# Altium integrated library Renesas Microcontroller M16C.IntLib: 423 symbols (part 23 of 30)
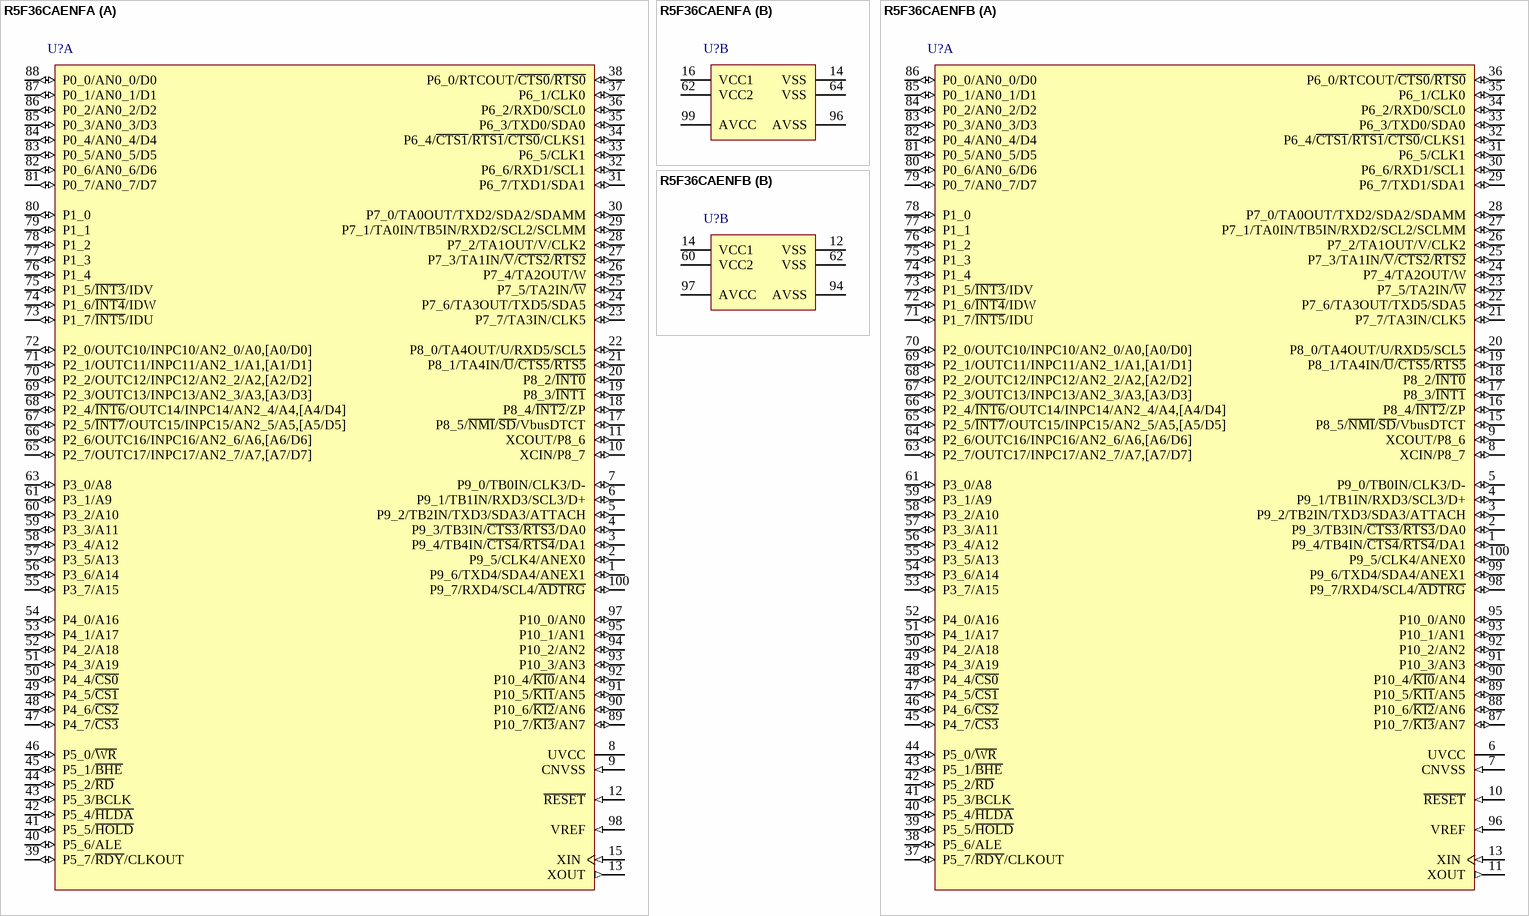
[diagram p208: symbols R5F36CAENFA to R5F36CAENFB]

## R5F36CAENFB
designator U?
Flash Memory M16C/60 Series, 6C Group MCU, 256K + 24K ROM, 20K RAM, 100-pin LQFP, -20 to 85°C; Note: P7_0, P7_1 and P8_5 are N channel open-drain output pins.; Published: 26-Feb-2010; DatasheetVersion: Rev.1.00, Jul-2009; PackageVersion: Sep-2005; PackageReference: PLQP0100KB-A; Publisher: Altium Limited; PackageDescription: 100-Pin Plastic Low Profile QFP, 14 x 14 x 1.4 mm Body, 0.5 mm Pitch; Code_JEITA: P-LQFP100-14x14-0.50; Code_IPC: SQFP50P1600X1600-100; ComponentLink1Description: Manufacturer Link; ComponentLink1URL: http://sg.renesas.com/fmwk.jsp?cnt=m16c_family_landing.jsp&fp=/products/mpumcu/m16c_family/; ComponentLink2Description: Datasheet; ComponentLink2URL: http://documentation.renesas.com/eng/products/mpumcu/rej03b0277_16c6cds.pdf; ComponentLink3Description: Packaging Specification; ComponentLink3URL: http://sg.renesas.com/media/products/common_info/package/pdf/ic/code/plqp0100kb_a.pdf
footprint PLQP0100KB-A_N (Shrink QFP, 100-Leads, Body 14x14mm, Pitch 0.5mm, IPC Medium Density)
footprint PLQP0100KB-A_L (Shrink QFP, 100-Leads, Body 14x14mm, Pitch 0.5mm, IPC High Density)
footprint PLQP0100KB-A_M (Shrink QFP, 100-Leads, Body 14x14mm, Pitch 0.5mm, IPC Low Density)
part A pins: 1 P9_4/TB4IN/~{CTS4}/~{RTS4}/DA1 (io), 2 P9_3/TB3IN/~{CTS3}/~{RTS3}/DA0 (io), 3 P9_2/TB2IN/TXD3/SDA3/ATTACH (io), 4 P9_1/TB1IN/RXD3/SCL3/D+ (io), 5 P9_0/TB0IN/CLK3/D- (io), 6 UVCC (power), 7 CNVSS (in), 8 XCIN/P8_7 (io), 9 XCOUT/P8_6 (io), 10 ~{RESET} (in), 11 XOUT (out), 13 XIN (in), 15 P8_5/~{NMI}/~{SD}/VbusDTCT (io), 16 P8_4/~{INT2}/ZP (io), 17 P8_3/~{INT1} (io), 18 P8_2/~{INT0} (io), 19 P8_1/TA4IN/~{U}/~{CTS5}/~{RTS5} (io), 20 P8_0/TA4OUT/U/RXD5/SCL5 (io), 21 P7_7/TA3IN/CLK5 (io), 22 P7_6/TA3OUT/TXD5/SDA5 (io), 23 P7_5/TA2IN/~{W} (io), 24 P7_4/TA2OUT/W (io), 25 P7_3/TA1IN/~{V}/~{CTS2}/~{RTS2} (io), 26 P7_2/TA1OUT/V/CLK2 (io), 27 P7_1/TA0IN/TB5IN/RXD2/SCL2/SCLMM (io), 28 P7_0/TA0OUT/TXD2/SDA2/SDAMM (io), 29 P6_7/TXD1/SDA1 (io), 30 P6_6/RXD1/SCL1 (io), 31 P6_5/CLK1 (io), 32 P6_4/~{CTS1}/~{RTS1}/~{CTS0}/CLKS1 (io), 33 P6_3/TXD0/SDA0 (io), 34 P6_2/RXD0/SCL0 (io), 35 P6_1/CLK0 (io), 36 P6_0/RTCOUT/~{CTS0}/~{RTS0} (io), 37 P5_7/~{RDY}/CLKOUT (io), 38 P5_6/ALE (io), 39 P5_5/~{HOLD} (io), 40 P5_4/~{HLDA} (io), 41 P5_3/BCLK (io), 42 P5_2/~{RD} (io), 43 P5_1/~{BHE} (io), 44 P5_0/~{WR} (io), 45 P4_7/~{CS3} (io), 46 P4_6/~{CS2} (io), 47 P4_5/~{CS1} (io), 48 P4_4/~{CS0} (io), 49 P4_3/A19 (io), 50 P4_2/A18 (io), 51 P4_1/A17 (io), 52 P4_0/A16 (io), 53 P3_7/A15 (io), 54 P3_6/A14 (io), 55 P3_5/A13 (io), 56 P3_4/A12 (io), 57 P3_3/A11 (io), 58 P3_2/A10 (io), 59 P3_1/A9 (io), 61 P3_0/A8 (io), 63 P2_7/OUTC17/INPC17/AN2_7/A7,[A7/D7] (io), 64 P2_6/OUTC16/INPC16/AN2_6/A6,[A6/D6] (io), 65 P2_5/~{INT7}/OUTC15/INPC15/AN2_5/A5,[A5/D5] (io), 66 P2_4/~{INT6}/OUTC14/INPC14/AN2_4/A4,[A4/D4] (io), 67 P2_3/OUTC13/INPC13/AN2_3/A3,[A3/D3] (io), 68 P2_2/OUTC12/INPC12/AN2_2/A2,[A2/D2] (io), 69 P2_1/OUTC11/INPC11/AN2_1/A1,[A1/D1] (io), 70 P2_0/OUTC10/INPC10/AN2_0/A0,[A0/D0] (io), 71 P1_7/~{INT5}/IDU (io), 72 P1_6/~{INT4}/IDW (io), 73 P1_5/~{INT3}/IDV (io), 74 P1_4 (io), 75 P1_3 (io), 76 P1_2 (io), 77 P1_1 (io), 78 P1_0 (io), 79 P0_7/AN0_7/D7 (io), 80 P0_6/AN0_6/D6 (io), 81 P0_5/AN0_5/D5 (io), 82 P0_4/AN0_4/D4 (io), 83 P0_3/AN0_3/D3 (io), 84 P0_2/AN0_2/D2 (io), 85 P0_1/AN0_1/D1 (io), 86 P0_0/AN0_0/D0 (io), 87 P10_7/~{KI3}/AN7 (io), 88 P10_6/~{KI2}/AN6 (io), 89 P10_5/~{KI1}/AN5 (io), 90 P10_4/~{KI0}/AN4 (io), 91 P10_3/AN3 (io), 92 P10_2/AN2 (io), 93 P10_1/AN1 (io), 95 P10_0/AN0 (io), 96 VREF (in), 98 P9_7/RXD4/SCL4/~{ADTRG} (io), 99 P9_6/TXD4/SDA4/ANEX1 (io), 100 P9_5/CLK4/ANEX0 (io)
part B pins: 12 VSS (power), 14 VCC1 (power), 60 VCC2 (power), 62 VSS (power), 94 AVSS (power), 97 AVCC (power)

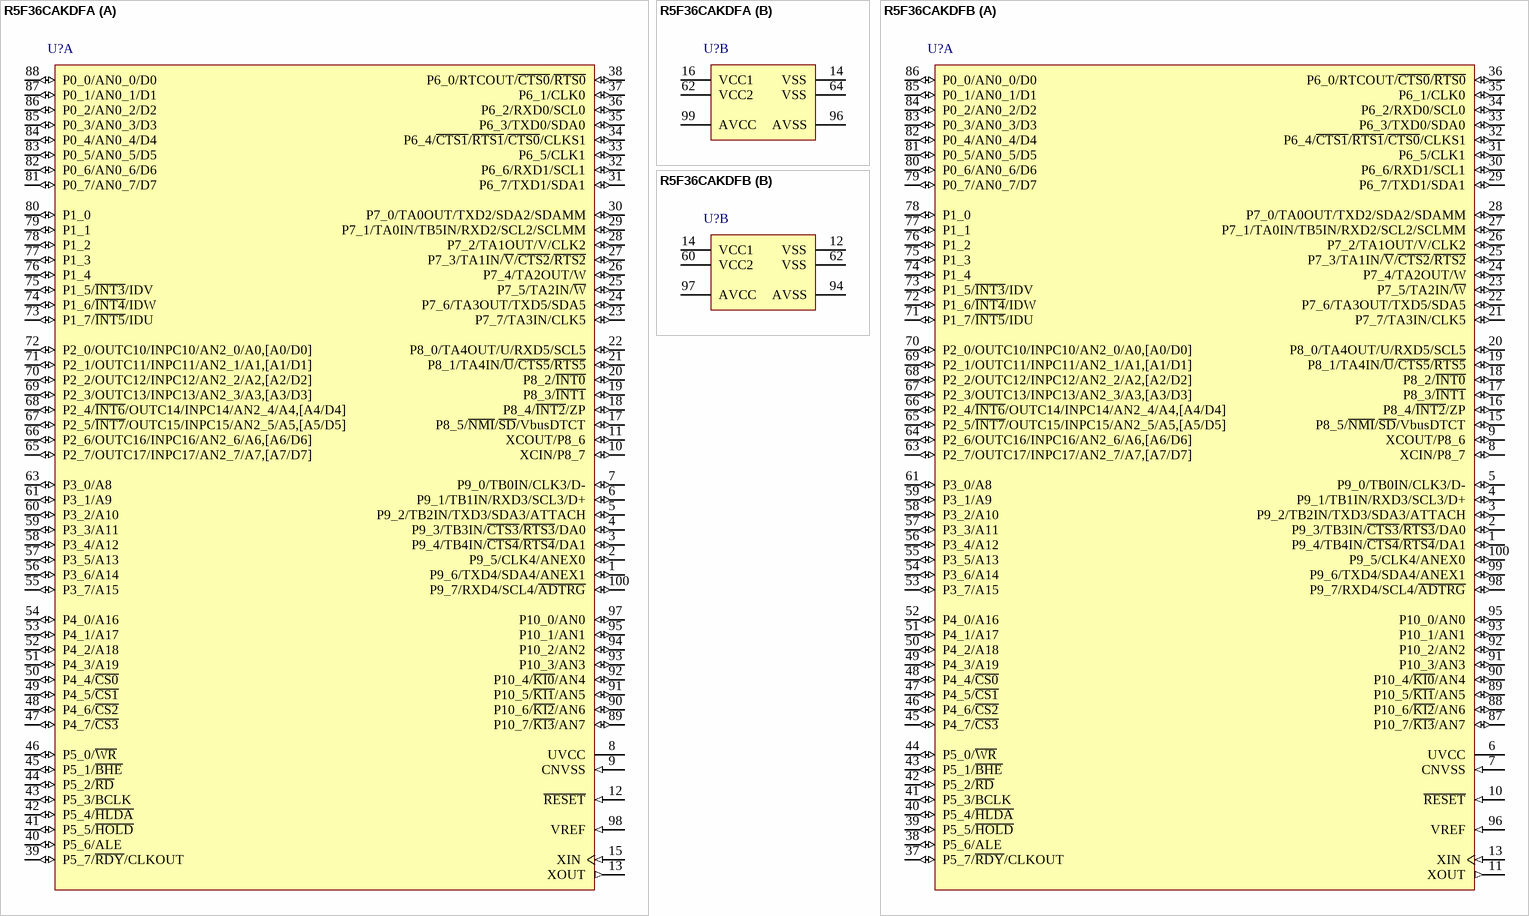
[diagram p140: symbols R5F36CAKDFA to R5F36CAKDFB]

## R5F36CAKDFA
designator U?
Flash Memory M16C/60 Series, 6C Group MCU, 348K + 24K ROM, 31K RAM, 100-pin RQFP, -40 to 85°C; Note: P7_0, P7_1 and P8_5 are N channel open-drain output pins.; Published: 26-Feb-2010; DatasheetVersion: Rev.1.00, Jul-2009; PackageVersion: Nov-2006; PackageReference: PRQP0100JD-B; Publisher: Altium Limited; PackageDescription: 100-Pin Plastic Quad Flat Pack, 20 x 14 x 2.8 mm Body, 0.65 mm Pitch; Code_JEITA: P-QFP100-14x20-0.65; ComponentLink1Description: Manufacturer Link; ComponentLink1URL: http://sg.renesas.com/fmwk.jsp?cnt=m16c_family_landing.jsp&fp=/products/mpumcu/m16c_family/; ComponentLink2Description: Datasheet; ComponentLink2URL: http://documentation.renesas.com/eng/products/mpumcu/rej03b0277_16c6cds.pdf; ComponentLink3Description: Packaging Specification; ComponentLink3URL: http://sg.renesas.com/media/products/common_info/package/pdf/ic/code/prqp0100jd_b.pdf
footprint PRQP0100JD-B_N (QFP, 100-Leads, Body 20x14mm, Pitch 0.65mm, IPC Medium Density)
footprint PRQP0100JD-B_L (QFP, 100-Leads, Body 20x14mm, Pitch 0.65mm, IPC High Density)
footprint PRQP0100JD-B_M (QFP, 100-Leads, Body 20x14mm, Pitch 0.65mm, IPC Low Density)
part A pins: 1 P9_6/TXD4/SDA4/ANEX1 (io), 2 P9_5/CLK4/ANEX0 (io), 3 P9_4/TB4IN/~{CTS4}/~{RTS4}/DA1 (io), 4 P9_3/TB3IN/~{CTS3}/~{RTS3}/DA0 (io), 5 P9_2/TB2IN/TXD3/SDA3/ATTACH (io), 6 P9_1/TB1IN/RXD3/SCL3/D+ (io), 7 P9_0/TB0IN/CLK3/D- (io), 8 UVCC (power), 9 CNVSS (in), 10 XCIN/P8_7 (io), 11 XCOUT/P8_6 (io), 12 ~{RESET} (in), 13 XOUT (out), 15 XIN (in), 17 P8_5/~{NMI}/~{SD}/VbusDTCT (io), 18 P8_4/~{INT2}/ZP (io), 19 P8_3/~{INT1} (io), 20 P8_2/~{INT0} (io), 21 P8_1/TA4IN/~{U}/~{CTS5}/~{RTS5} (io), 22 P8_0/TA4OUT/U/RXD5/SCL5 (io), 23 P7_7/TA3IN/CLK5 (io), 24 P7_6/TA3OUT/TXD5/SDA5 (io), 25 P7_5/TA2IN/~{W} (io), 26 P7_4/TA2OUT/W (io), 27 P7_3/TA1IN/~{V}/~{CTS2}/~{RTS2} (io), 28 P7_2/TA1OUT/V/CLK2 (io), 29 P7_1/TA0IN/TB5IN/RXD2/SCL2/SCLMM (io), 30 P7_0/TA0OUT/TXD2/SDA2/SDAMM (io), 31 P6_7/TXD1/SDA1 (io), 32 P6_6/RXD1/SCL1 (io), 33 P6_5/CLK1 (io), 34 P6_4/~{CTS1}/~{RTS1}/~{CTS0}/CLKS1 (io), 35 P6_3/TXD0/SDA0 (io), 36 P6_2/RXD0/SCL0 (io), 37 P6_1/CLK0 (io), 38 P6_0/RTCOUT/~{CTS0}/~{RTS0} (io), 39 P5_7/~{RDY}/CLKOUT (io), 40 P5_6/ALE (io), 41 P5_5/~{HOLD} (io), 42 P5_4/~{HLDA} (io), 43 P5_3/BCLK (io), 44 P5_2/~{RD} (io), 45 P5_1/~{BHE} (io), 46 P5_0/~{WR} (io), 47 P4_7/~{CS3} (io), 48 P4_6/~{CS2} (io), 49 P4_5/~{CS1} (io), 50 P4_4/~{CS0} (io), 51 P4_3/A19 (io), 52 P4_2/A18 (io), 53 P4_1/A17 (io), 54 P4_0/A16 (io), 55 P3_7/A15 (io), 56 P3_6/A14 (io), 57 P3_5/A13 (io), 58 P3_4/A12 (io), 59 P3_3/A11 (io), 60 P3_2/A10 (io), 61 P3_1/A9 (io), 63 P3_0/A8 (io), 65 P2_7/OUTC17/INPC17/AN2_7/A7,[A7/D7] (io), 66 P2_6/OUTC16/INPC16/AN2_6/A6,[A6/D6] (io), 67 P2_5/~{INT7}/OUTC15/INPC15/AN2_5/A5,[A5/D5] (io), 68 P2_4/~{INT6}/OUTC14/INPC14/AN2_4/A4,[A4/D4] (io), 69 P2_3/OUTC13/INPC13/AN2_3/A3,[A3/D3] (io), 70 P2_2/OUTC12/INPC12/AN2_2/A2,[A2/D2] (io), 71 P2_1/OUTC11/INPC11/AN2_1/A1,[A1/D1] (io), 72 P2_0/OUTC10/INPC10/AN2_0/A0,[A0/D0] (io), 73 P1_7/~{INT5}/IDU (io), 74 P1_6/~{INT4}/IDW (io), 75 P1_5/~{INT3}/IDV (io), 76 P1_4 (io), 77 P1_3 (io), 78 P1_2 (io), 79 P1_1 (io), 80 P1_0 (io), 81 P0_7/AN0_7/D7 (io), 82 P0_6/AN0_6/D6 (io), 83 P0_5/AN0_5/D5 (io), 84 P0_4/AN0_4/D4 (io), 85 P0_3/AN0_3/D3 (io), 86 P0_2/AN0_2/D2 (io), 87 P0_1/AN0_1/D1 (io), 88 P0_0/AN0_0/D0 (io), 89 P10_7/~{KI3}/AN7 (io), 90 P10_6/~{KI2}/AN6 (io), 91 P10_5/~{KI1}/AN5 (io), 92 P10_4/~{KI0}/AN4 (io), 93 P10_3/AN3 (io), 94 P10_2/AN2 (io), 95 P10_1/AN1 (io), 97 P10_0/AN0 (io), 98 VREF (in), 100 P9_7/RXD4/SCL4/~{ADTRG} (io)
part B pins: 14 VSS (power), 16 VCC1 (power), 62 VCC2 (power), 64 VSS (power), 96 AVSS (power), 99 AVCC (power)

## R5F36CAKDFB
designator U?
Flash Memory M16C/60 Series, 6C Group MCU, 348K + 24K ROM, 31K RAM, 100-pin LQFP, -40 to 85°C; Note: P7_0, P7_1 and P8_5 are N channel open-drain output pins.; Published: 26-Feb-2010; DatasheetVersion: Rev.1.00, Jul-2009; PackageVersion: Sep-2005; PackageReference: PLQP0100KB-A; Publisher: Altium Limited; PackageDescription: 100-Pin Plastic Low Profile QFP, 14 x 14 x 1.4 mm Body, 0.5 mm Pitch; Code_JEITA: P-LQFP100-14x14-0.50; Code_IPC: SQFP50P1600X1600-100; ComponentLink1Description: Manufacturer Link; ComponentLink1URL: http://sg.renesas.com/fmwk.jsp?cnt=m16c_family_landing.jsp&fp=/products/mpumcu/m16c_family/; ComponentLink2Description: Datasheet; ComponentLink2URL: http://documentation.renesas.com/eng/products/mpumcu/rej03b0277_16c6cds.pdf; ComponentLink3Description: Packaging Specification; ComponentLink3URL: http://sg.renesas.com/media/products/common_info/package/pdf/ic/code/plqp0100kb_a.pdf
footprint PLQP0100KB-A_N (Shrink QFP, 100-Leads, Body 14x14mm, Pitch 0.5mm, IPC Medium Density)
footprint PLQP0100KB-A_L (Shrink QFP, 100-Leads, Body 14x14mm, Pitch 0.5mm, IPC High Density)
footprint PLQP0100KB-A_M (Shrink QFP, 100-Leads, Body 14x14mm, Pitch 0.5mm, IPC Low Density)
part A pins: 1 P9_4/TB4IN/~{CTS4}/~{RTS4}/DA1 (io), 2 P9_3/TB3IN/~{CTS3}/~{RTS3}/DA0 (io), 3 P9_2/TB2IN/TXD3/SDA3/ATTACH (io), 4 P9_1/TB1IN/RXD3/SCL3/D+ (io), 5 P9_0/TB0IN/CLK3/D- (io), 6 UVCC (power), 7 CNVSS (in), 8 XCIN/P8_7 (io), 9 XCOUT/P8_6 (io), 10 ~{RESET} (in), 11 XOUT (out), 13 XIN (in), 15 P8_5/~{NMI}/~{SD}/VbusDTCT (io), 16 P8_4/~{INT2}/ZP (io), 17 P8_3/~{INT1} (io), 18 P8_2/~{INT0} (io), 19 P8_1/TA4IN/~{U}/~{CTS5}/~{RTS5} (io), 20 P8_0/TA4OUT/U/RXD5/SCL5 (io), 21 P7_7/TA3IN/CLK5 (io), 22 P7_6/TA3OUT/TXD5/SDA5 (io), 23 P7_5/TA2IN/~{W} (io), 24 P7_4/TA2OUT/W (io), 25 P7_3/TA1IN/~{V}/~{CTS2}/~{RTS2} (io), 26 P7_2/TA1OUT/V/CLK2 (io), 27 P7_1/TA0IN/TB5IN/RXD2/SCL2/SCLMM (io), 28 P7_0/TA0OUT/TXD2/SDA2/SDAMM (io), 29 P6_7/TXD1/SDA1 (io), 30 P6_6/RXD1/SCL1 (io), 31 P6_5/CLK1 (io), 32 P6_4/~{CTS1}/~{RTS1}/~{CTS0}/CLKS1 (io), 33 P6_3/TXD0/SDA0 (io), 34 P6_2/RXD0/SCL0 (io), 35 P6_1/CLK0 (io), 36 P6_0/RTCOUT/~{CTS0}/~{RTS0} (io), 37 P5_7/~{RDY}/CLKOUT (io), 38 P5_6/ALE (io), 39 P5_5/~{HOLD} (io), 40 P5_4/~{HLDA} (io), 41 P5_3/BCLK (io), 42 P5_2/~{RD} (io), 43 P5_1/~{BHE} (io), 44 P5_0/~{WR} (io), 45 P4_7/~{CS3} (io), 46 P4_6/~{CS2} (io), 47 P4_5/~{CS1} (io), 48 P4_4/~{CS0} (io), 49 P4_3/A19 (io), 50 P4_2/A18 (io), 51 P4_1/A17 (io), 52 P4_0/A16 (io), 53 P3_7/A15 (io), 54 P3_6/A14 (io), 55 P3_5/A13 (io), 56 P3_4/A12 (io), 57 P3_3/A11 (io), 58 P3_2/A10 (io), 59 P3_1/A9 (io), 61 P3_0/A8 (io), 63 P2_7/OUTC17/INPC17/AN2_7/A7,[A7/D7] (io), 64 P2_6/OUTC16/INPC16/AN2_6/A6,[A6/D6] (io), 65 P2_5/~{INT7}/OUTC15/INPC15/AN2_5/A5,[A5/D5] (io), 66 P2_4/~{INT6}/OUTC14/INPC14/AN2_4/A4,[A4/D4] (io), 67 P2_3/OUTC13/INPC13/AN2_3/A3,[A3/D3] (io), 68 P2_2/OUTC12/INPC12/AN2_2/A2,[A2/D2] (io), 69 P2_1/OUTC11/INPC11/AN2_1/A1,[A1/D1] (io), 70 P2_0/OUTC10/INPC10/AN2_0/A0,[A0/D0] (io), 71 P1_7/~{INT5}/IDU (io), 72 P1_6/~{INT4}/IDW (io), 73 P1_5/~{INT3}/IDV (io), 74 P1_4 (io), 75 P1_3 (io), 76 P1_2 (io), 77 P1_1 (io), 78 P1_0 (io), 79 P0_7/AN0_7/D7 (io), 80 P0_6/AN0_6/D6 (io), 81 P0_5/AN0_5/D5 (io), 82 P0_4/AN0_4/D4 (io), 83 P0_3/AN0_3/D3 (io), 84 P0_2/AN0_2/D2 (io), 85 P0_1/AN0_1/D1 (io), 86 P0_0/AN0_0/D0 (io), 87 P10_7/~{KI3}/AN7 (io), 88 P10_6/~{KI2}/AN6 (io), 89 P10_5/~{KI1}/AN5 (io), 90 P10_4/~{KI0}/AN4 (io), 91 P10_3/AN3 (io), 92 P10_2/AN2 (io), 93 P10_1/AN1 (io), 95 P10_0/AN0 (io), 96 VREF (in), 98 P9_7/RXD4/SCL4/~{ADTRG} (io), 99 P9_6/TXD4/SDA4/ANEX1 (io), 100 P9_5/CLK4/ANEX0 (io)
part B pins: 12 VSS (power), 14 VCC1 (power), 60 VCC2 (power), 62 VSS (power), 94 AVSS (power), 97 AVCC (power)

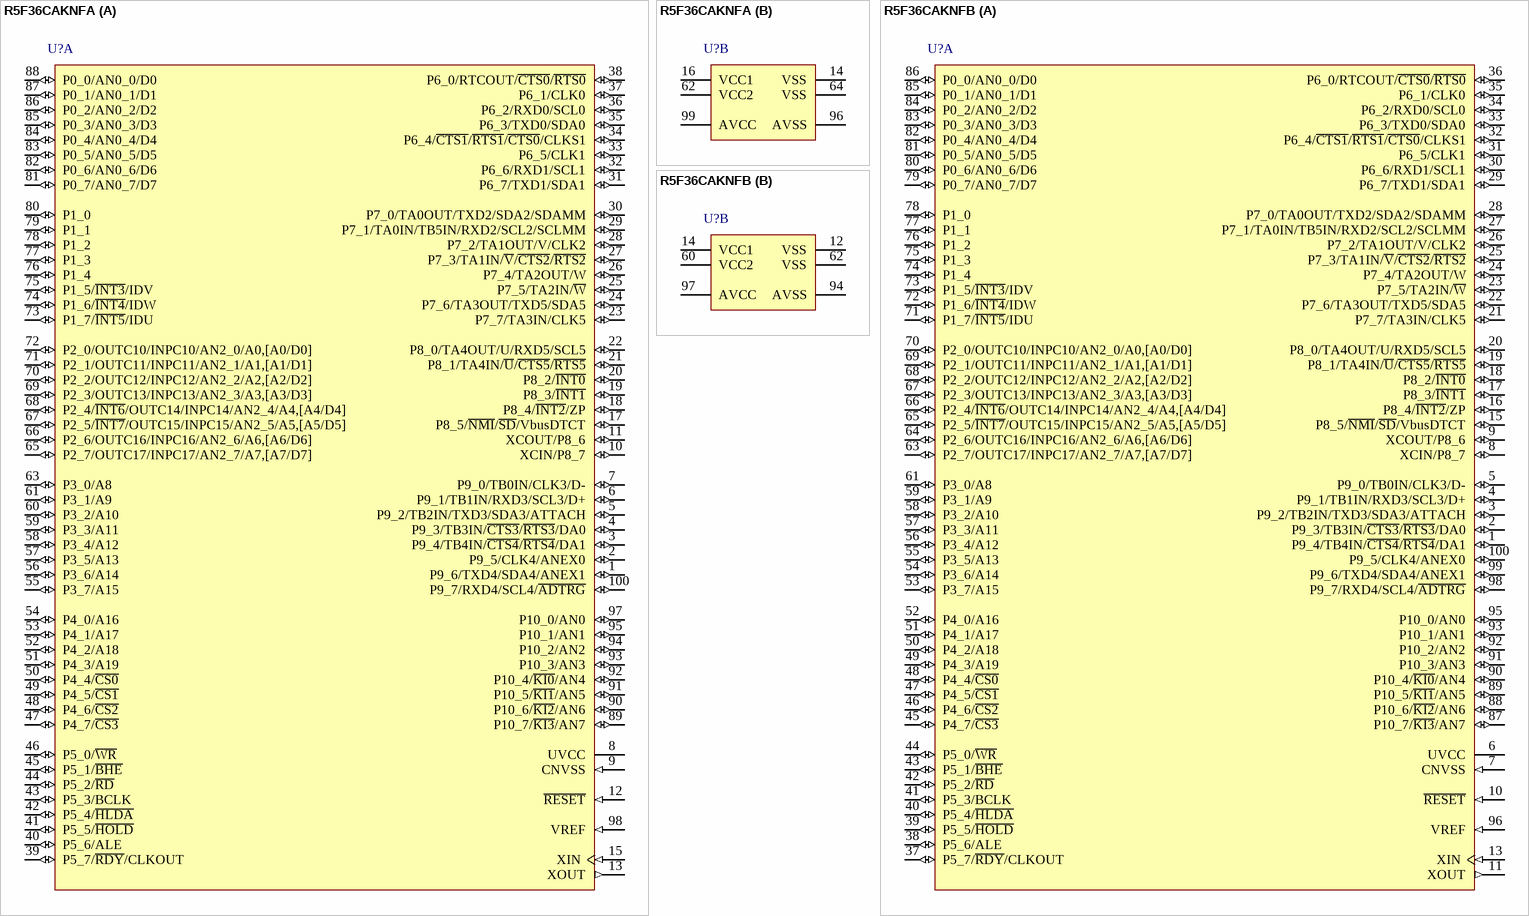
[diagram p141: symbols R5F36CAKNFA to R5F36CAKNFB]

## R5F36CAKNFA
designator U?
Flash Memory M16C/60 Series, 6C Group MCU, 348K + 24K ROM, 31K RAM, 100-pin RQFP, -20 to 85°C; Note: P7_0, P7_1 and P8_5 are N channel open-drain output pins.; Published: 26-Feb-2010; DatasheetVersion: Rev.1.00, Jul-2009; PackageVersion: Nov-2006; PackageReference: PRQP0100JD-B; Publisher: Altium Limited; PackageDescription: 100-Pin Plastic Quad Flat Pack, 20 x 14 x 2.8 mm Body, 0.65 mm Pitch; Code_JEITA: P-QFP100-14x20-0.65; ComponentLink1Description: Manufacturer Link; ComponentLink1URL: http://sg.renesas.com/fmwk.jsp?cnt=m16c_family_landing.jsp&fp=/products/mpumcu/m16c_family/; ComponentLink2Description: Datasheet; ComponentLink2URL: http://documentation.renesas.com/eng/products/mpumcu/rej03b0277_16c6cds.pdf; ComponentLink3Description: Packaging Specification; ComponentLink3URL: http://sg.renesas.com/media/products/common_info/package/pdf/ic/code/prqp0100jd_b.pdf
footprint PRQP0100JD-B_N (QFP, 100-Leads, Body 20x14mm, Pitch 0.65mm, IPC Medium Density)
footprint PRQP0100JD-B_L (QFP, 100-Leads, Body 20x14mm, Pitch 0.65mm, IPC High Density)
footprint PRQP0100JD-B_M (QFP, 100-Leads, Body 20x14mm, Pitch 0.65mm, IPC Low Density)
part A pins: 1 P9_6/TXD4/SDA4/ANEX1 (io), 2 P9_5/CLK4/ANEX0 (io), 3 P9_4/TB4IN/~{CTS4}/~{RTS4}/DA1 (io), 4 P9_3/TB3IN/~{CTS3}/~{RTS3}/DA0 (io), 5 P9_2/TB2IN/TXD3/SDA3/ATTACH (io), 6 P9_1/TB1IN/RXD3/SCL3/D+ (io), 7 P9_0/TB0IN/CLK3/D- (io), 8 UVCC (power), 9 CNVSS (in), 10 XCIN/P8_7 (io), 11 XCOUT/P8_6 (io), 12 ~{RESET} (in), 13 XOUT (out), 15 XIN (in), 17 P8_5/~{NMI}/~{SD}/VbusDTCT (io), 18 P8_4/~{INT2}/ZP (io), 19 P8_3/~{INT1} (io), 20 P8_2/~{INT0} (io), 21 P8_1/TA4IN/~{U}/~{CTS5}/~{RTS5} (io), 22 P8_0/TA4OUT/U/RXD5/SCL5 (io), 23 P7_7/TA3IN/CLK5 (io), 24 P7_6/TA3OUT/TXD5/SDA5 (io), 25 P7_5/TA2IN/~{W} (io), 26 P7_4/TA2OUT/W (io), 27 P7_3/TA1IN/~{V}/~{CTS2}/~{RTS2} (io), 28 P7_2/TA1OUT/V/CLK2 (io), 29 P7_1/TA0IN/TB5IN/RXD2/SCL2/SCLMM (io), 30 P7_0/TA0OUT/TXD2/SDA2/SDAMM (io), 31 P6_7/TXD1/SDA1 (io), 32 P6_6/RXD1/SCL1 (io), 33 P6_5/CLK1 (io), 34 P6_4/~{CTS1}/~{RTS1}/~{CTS0}/CLKS1 (io), 35 P6_3/TXD0/SDA0 (io), 36 P6_2/RXD0/SCL0 (io), 37 P6_1/CLK0 (io), 38 P6_0/RTCOUT/~{CTS0}/~{RTS0} (io), 39 P5_7/~{RDY}/CLKOUT (io), 40 P5_6/ALE (io), 41 P5_5/~{HOLD} (io), 42 P5_4/~{HLDA} (io), 43 P5_3/BCLK (io), 44 P5_2/~{RD} (io), 45 P5_1/~{BHE} (io), 46 P5_0/~{WR} (io), 47 P4_7/~{CS3} (io), 48 P4_6/~{CS2} (io), 49 P4_5/~{CS1} (io), 50 P4_4/~{CS0} (io), 51 P4_3/A19 (io), 52 P4_2/A18 (io), 53 P4_1/A17 (io), 54 P4_0/A16 (io), 55 P3_7/A15 (io), 56 P3_6/A14 (io), 57 P3_5/A13 (io), 58 P3_4/A12 (io), 59 P3_3/A11 (io), 60 P3_2/A10 (io), 61 P3_1/A9 (io), 63 P3_0/A8 (io), 65 P2_7/OUTC17/INPC17/AN2_7/A7,[A7/D7] (io), 66 P2_6/OUTC16/INPC16/AN2_6/A6,[A6/D6] (io), 67 P2_5/~{INT7}/OUTC15/INPC15/AN2_5/A5,[A5/D5] (io), 68 P2_4/~{INT6}/OUTC14/INPC14/AN2_4/A4,[A4/D4] (io), 69 P2_3/OUTC13/INPC13/AN2_3/A3,[A3/D3] (io), 70 P2_2/OUTC12/INPC12/AN2_2/A2,[A2/D2] (io), 71 P2_1/OUTC11/INPC11/AN2_1/A1,[A1/D1] (io), 72 P2_0/OUTC10/INPC10/AN2_0/A0,[A0/D0] (io), 73 P1_7/~{INT5}/IDU (io), 74 P1_6/~{INT4}/IDW (io), 75 P1_5/~{INT3}/IDV (io), 76 P1_4 (io), 77 P1_3 (io), 78 P1_2 (io), 79 P1_1 (io), 80 P1_0 (io), 81 P0_7/AN0_7/D7 (io), 82 P0_6/AN0_6/D6 (io), 83 P0_5/AN0_5/D5 (io), 84 P0_4/AN0_4/D4 (io), 85 P0_3/AN0_3/D3 (io), 86 P0_2/AN0_2/D2 (io), 87 P0_1/AN0_1/D1 (io), 88 P0_0/AN0_0/D0 (io), 89 P10_7/~{KI3}/AN7 (io), 90 P10_6/~{KI2}/AN6 (io), 91 P10_5/~{KI1}/AN5 (io), 92 P10_4/~{KI0}/AN4 (io), 93 P10_3/AN3 (io), 94 P10_2/AN2 (io), 95 P10_1/AN1 (io), 97 P10_0/AN0 (io), 98 VREF (in), 100 P9_7/RXD4/SCL4/~{ADTRG} (io)
part B pins: 14 VSS (power), 16 VCC1 (power), 62 VCC2 (power), 64 VSS (power), 96 AVSS (power), 99 AVCC (power)

## R5F36CAKNFB
designator U?
Flash Memory M16C/60 Series, 6C Group MCU, 348K + 24K ROM, 31K RAM, 100-pin LQFP, -20 to 85°C; Note: P7_0, P7_1 and P8_5 are N channel open-drain output pins.; Published: 26-Feb-2010; DatasheetVersion: Rev.1.00, Jul-2009; PackageVersion: Sep-2005; PackageReference: PLQP0100KB-A; Publisher: Altium Limited; PackageDescription: 100-Pin Plastic Low Profile QFP, 14 x 14 x 1.4 mm Body, 0.5 mm Pitch; Code_JEITA: P-LQFP100-14x14-0.50; Code_IPC: SQFP50P1600X1600-100; ComponentLink1Description: Manufacturer Link; ComponentLink1URL: http://sg.renesas.com/fmwk.jsp?cnt=m16c_family_landing.jsp&fp=/products/mpumcu/m16c_family/; ComponentLink2Description: Datasheet; ComponentLink2URL: http://documentation.renesas.com/eng/products/mpumcu/rej03b0277_16c6cds.pdf; ComponentLink3Description: Packaging Specification; ComponentLink3URL: http://sg.renesas.com/media/products/common_info/package/pdf/ic/code/plqp0100kb_a.pdf
footprint PLQP0100KB-A_N (Shrink QFP, 100-Leads, Body 14x14mm, Pitch 0.5mm, IPC Medium Density)
footprint PLQP0100KB-A_L (Shrink QFP, 100-Leads, Body 14x14mm, Pitch 0.5mm, IPC High Density)
footprint PLQP0100KB-A_M (Shrink QFP, 100-Leads, Body 14x14mm, Pitch 0.5mm, IPC Low Density)
part A pins: 1 P9_4/TB4IN/~{CTS4}/~{RTS4}/DA1 (io), 2 P9_3/TB3IN/~{CTS3}/~{RTS3}/DA0 (io), 3 P9_2/TB2IN/TXD3/SDA3/ATTACH (io), 4 P9_1/TB1IN/RXD3/SCL3/D+ (io), 5 P9_0/TB0IN/CLK3/D- (io), 6 UVCC (power), 7 CNVSS (in), 8 XCIN/P8_7 (io), 9 XCOUT/P8_6 (io), 10 ~{RESET} (in), 11 XOUT (out), 13 XIN (in), 15 P8_5/~{NMI}/~{SD}/VbusDTCT (io), 16 P8_4/~{INT2}/ZP (io), 17 P8_3/~{INT1} (io), 18 P8_2/~{INT0} (io), 19 P8_1/TA4IN/~{U}/~{CTS5}/~{RTS5} (io), 20 P8_0/TA4OUT/U/RXD5/SCL5 (io), 21 P7_7/TA3IN/CLK5 (io), 22 P7_6/TA3OUT/TXD5/SDA5 (io), 23 P7_5/TA2IN/~{W} (io), 24 P7_4/TA2OUT/W (io), 25 P7_3/TA1IN/~{V}/~{CTS2}/~{RTS2} (io), 26 P7_2/TA1OUT/V/CLK2 (io), 27 P7_1/TA0IN/TB5IN/RXD2/SCL2/SCLMM (io), 28 P7_0/TA0OUT/TXD2/SDA2/SDAMM (io), 29 P6_7/TXD1/SDA1 (io), 30 P6_6/RXD1/SCL1 (io), 31 P6_5/CLK1 (io), 32 P6_4/~{CTS1}/~{RTS1}/~{CTS0}/CLKS1 (io), 33 P6_3/TXD0/SDA0 (io), 34 P6_2/RXD0/SCL0 (io), 35 P6_1/CLK0 (io), 36 P6_0/RTCOUT/~{CTS0}/~{RTS0} (io), 37 P5_7/~{RDY}/CLKOUT (io), 38 P5_6/ALE (io), 39 P5_5/~{HOLD} (io), 40 P5_4/~{HLDA} (io), 41 P5_3/BCLK (io), 42 P5_2/~{RD} (io), 43 P5_1/~{BHE} (io), 44 P5_0/~{WR} (io), 45 P4_7/~{CS3} (io), 46 P4_6/~{CS2} (io), 47 P4_5/~{CS1} (io), 48 P4_4/~{CS0} (io), 49 P4_3/A19 (io), 50 P4_2/A18 (io), 51 P4_1/A17 (io), 52 P4_0/A16 (io), 53 P3_7/A15 (io), 54 P3_6/A14 (io), 55 P3_5/A13 (io), 56 P3_4/A12 (io), 57 P3_3/A11 (io), 58 P3_2/A10 (io), 59 P3_1/A9 (io), 61 P3_0/A8 (io), 63 P2_7/OUTC17/INPC17/AN2_7/A7,[A7/D7] (io), 64 P2_6/OUTC16/INPC16/AN2_6/A6,[A6/D6] (io), 65 P2_5/~{INT7}/OUTC15/INPC15/AN2_5/A5,[A5/D5] (io), 66 P2_4/~{INT6}/OUTC14/INPC14/AN2_4/A4,[A4/D4] (io), 67 P2_3/OUTC13/INPC13/AN2_3/A3,[A3/D3] (io), 68 P2_2/OUTC12/INPC12/AN2_2/A2,[A2/D2] (io), 69 P2_1/OUTC11/INPC11/AN2_1/A1,[A1/D1] (io), 70 P2_0/OUTC10/INPC10/AN2_0/A0,[A0/D0] (io), 71 P1_7/~{INT5}/IDU (io), 72 P1_6/~{INT4}/IDW (io), 73 P1_5/~{INT3}/IDV (io), 74 P1_4 (io), 75 P1_3 (io), 76 P1_2 (io), 77 P1_1 (io), 78 P1_0 (io), 79 P0_7/AN0_7/D7 (io), 80 P0_6/AN0_6/D6 (io), 81 P0_5/AN0_5/D5 (io), 82 P0_4/AN0_4/D4 (io), 83 P0_3/AN0_3/D3 (io), 84 P0_2/AN0_2/D2 (io), 85 P0_1/AN0_1/D1 (io), 86 P0_0/AN0_0/D0 (io), 87 P10_7/~{KI3}/AN7 (io), 88 P10_6/~{KI2}/AN6 (io), 89 P10_5/~{KI1}/AN5 (io), 90 P10_4/~{KI0}/AN4 (io), 91 P10_3/AN3 (io), 92 P10_2/AN2 (io), 93 P10_1/AN1 (io), 95 P10_0/AN0 (io), 96 VREF (in), 98 P9_7/RXD4/SCL4/~{ADTRG} (io), 99 P9_6/TXD4/SDA4/ANEX1 (io), 100 P9_5/CLK4/ANEX0 (io)
part B pins: 12 VSS (power), 14 VCC1 (power), 60 VCC2 (power), 62 VSS (power), 94 AVSS (power), 97 AVCC (power)

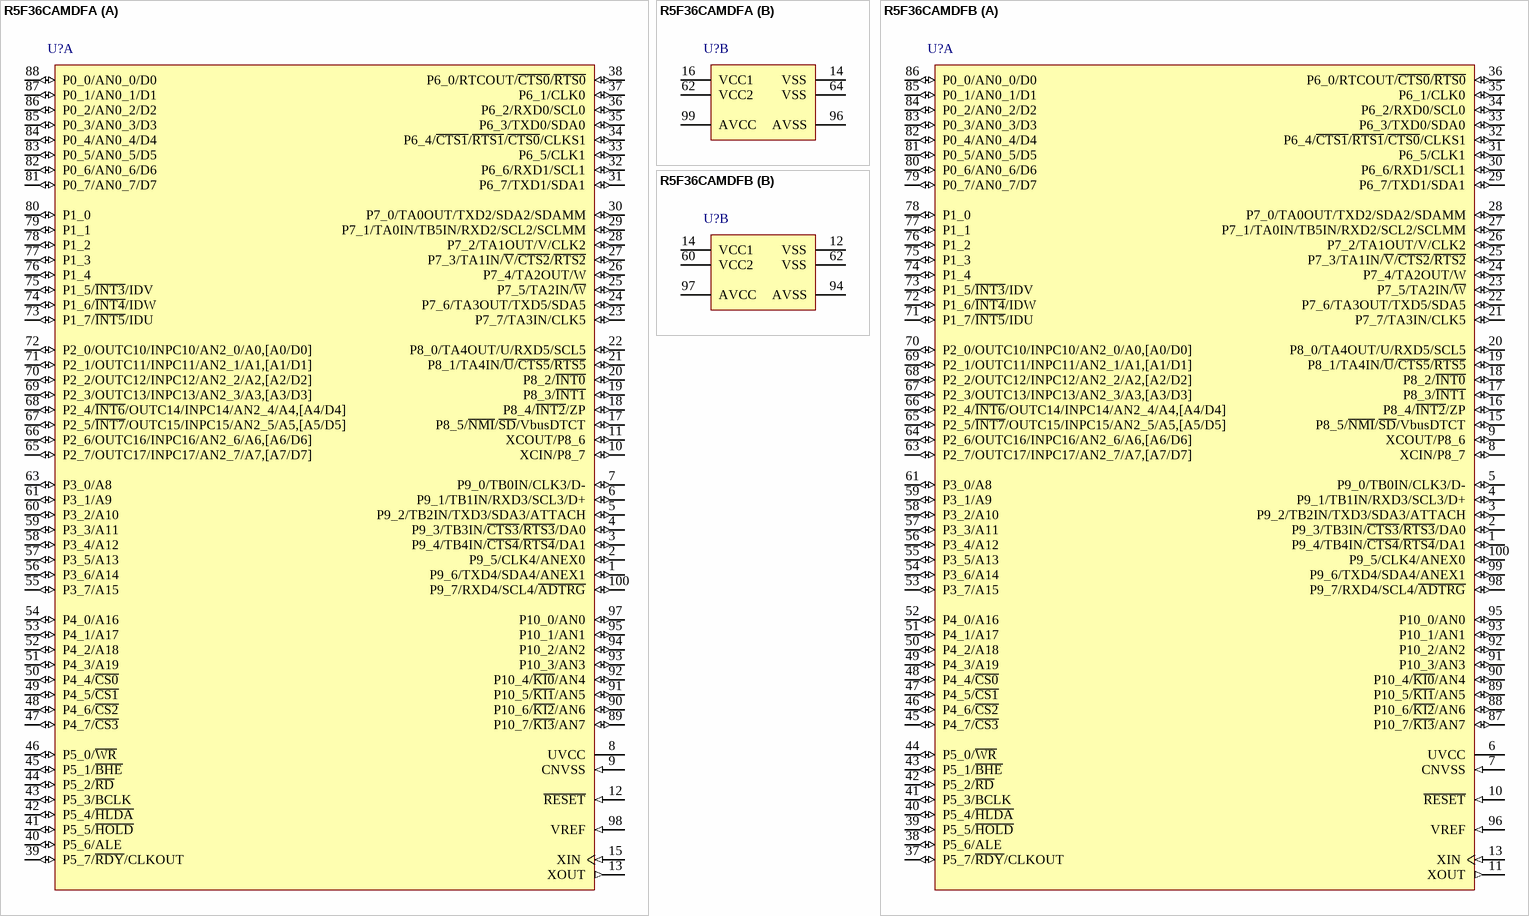
[diagram p142: symbols R5F36CAMDFA to R5F36CAMDFB]

## R5F36CAMDFA
designator U?
Flash Memory M16C/60 Series, 6C Group MCU, 512K + 24K ROM, 31K RAM, 100-pin RQFP, -40 to 85°C; Note: P7_0, P7_1 and P8_5 are N channel open-drain output pins.; Published: 26-Feb-2010; DatasheetVersion: Rev.1.00, Jul-2009; PackageVersion: Nov-2006; PackageReference: PRQP0100JD-B; Publisher: Altium Limited; PackageDescription: 100-Pin Plastic Quad Flat Pack, 20 x 14 x 2.8 mm Body, 0.65 mm Pitch; Code_JEITA: P-QFP100-14x20-0.65; ComponentLink1Description: Manufacturer Link; ComponentLink1URL: http://sg.renesas.com/fmwk.jsp?cnt=m16c_family_landing.jsp&fp=/products/mpumcu/m16c_family/; ComponentLink2Description: Datasheet; ComponentLink2URL: http://documentation.renesas.com/eng/products/mpumcu/rej03b0277_16c6cds.pdf; ComponentLink3Description: Packaging Specification; ComponentLink3URL: http://sg.renesas.com/media/products/common_info/package/pdf/ic/code/prqp0100jd_b.pdf
footprint PRQP0100JD-B_N (QFP, 100-Leads, Body 20x14mm, Pitch 0.65mm, IPC Medium Density)
footprint PRQP0100JD-B_L (QFP, 100-Leads, Body 20x14mm, Pitch 0.65mm, IPC High Density)
footprint PRQP0100JD-B_M (QFP, 100-Leads, Body 20x14mm, Pitch 0.65mm, IPC Low Density)
part A pins: 1 P9_6/TXD4/SDA4/ANEX1 (io), 2 P9_5/CLK4/ANEX0 (io), 3 P9_4/TB4IN/~{CTS4}/~{RTS4}/DA1 (io), 4 P9_3/TB3IN/~{CTS3}/~{RTS3}/DA0 (io), 5 P9_2/TB2IN/TXD3/SDA3/ATTACH (io), 6 P9_1/TB1IN/RXD3/SCL3/D+ (io), 7 P9_0/TB0IN/CLK3/D- (io), 8 UVCC (power), 9 CNVSS (in), 10 XCIN/P8_7 (io), 11 XCOUT/P8_6 (io), 12 ~{RESET} (in), 13 XOUT (out), 15 XIN (in), 17 P8_5/~{NMI}/~{SD}/VbusDTCT (io), 18 P8_4/~{INT2}/ZP (io), 19 P8_3/~{INT1} (io), 20 P8_2/~{INT0} (io), 21 P8_1/TA4IN/~{U}/~{CTS5}/~{RTS5} (io), 22 P8_0/TA4OUT/U/RXD5/SCL5 (io), 23 P7_7/TA3IN/CLK5 (io), 24 P7_6/TA3OUT/TXD5/SDA5 (io), 25 P7_5/TA2IN/~{W} (io), 26 P7_4/TA2OUT/W (io), 27 P7_3/TA1IN/~{V}/~{CTS2}/~{RTS2} (io), 28 P7_2/TA1OUT/V/CLK2 (io), 29 P7_1/TA0IN/TB5IN/RXD2/SCL2/SCLMM (io), 30 P7_0/TA0OUT/TXD2/SDA2/SDAMM (io), 31 P6_7/TXD1/SDA1 (io), 32 P6_6/RXD1/SCL1 (io), 33 P6_5/CLK1 (io), 34 P6_4/~{CTS1}/~{RTS1}/~{CTS0}/CLKS1 (io), 35 P6_3/TXD0/SDA0 (io), 36 P6_2/RXD0/SCL0 (io), 37 P6_1/CLK0 (io), 38 P6_0/RTCOUT/~{CTS0}/~{RTS0} (io), 39 P5_7/~{RDY}/CLKOUT (io), 40 P5_6/ALE (io), 41 P5_5/~{HOLD} (io), 42 P5_4/~{HLDA} (io), 43 P5_3/BCLK (io), 44 P5_2/~{RD} (io), 45 P5_1/~{BHE} (io), 46 P5_0/~{WR} (io), 47 P4_7/~{CS3} (io), 48 P4_6/~{CS2} (io), 49 P4_5/~{CS1} (io), 50 P4_4/~{CS0} (io), 51 P4_3/A19 (io), 52 P4_2/A18 (io), 53 P4_1/A17 (io), 54 P4_0/A16 (io), 55 P3_7/A15 (io), 56 P3_6/A14 (io), 57 P3_5/A13 (io), 58 P3_4/A12 (io), 59 P3_3/A11 (io), 60 P3_2/A10 (io), 61 P3_1/A9 (io), 63 P3_0/A8 (io), 65 P2_7/OUTC17/INPC17/AN2_7/A7,[A7/D7] (io), 66 P2_6/OUTC16/INPC16/AN2_6/A6,[A6/D6] (io), 67 P2_5/~{INT7}/OUTC15/INPC15/AN2_5/A5,[A5/D5] (io), 68 P2_4/~{INT6}/OUTC14/INPC14/AN2_4/A4,[A4/D4] (io), 69 P2_3/OUTC13/INPC13/AN2_3/A3,[A3/D3] (io), 70 P2_2/OUTC12/INPC12/AN2_2/A2,[A2/D2] (io), 71 P2_1/OUTC11/INPC11/AN2_1/A1,[A1/D1] (io), 72 P2_0/OUTC10/INPC10/AN2_0/A0,[A0/D0] (io), 73 P1_7/~{INT5}/IDU (io), 74 P1_6/~{INT4}/IDW (io), 75 P1_5/~{INT3}/IDV (io), 76 P1_4 (io), 77 P1_3 (io), 78 P1_2 (io), 79 P1_1 (io), 80 P1_0 (io), 81 P0_7/AN0_7/D7 (io), 82 P0_6/AN0_6/D6 (io), 83 P0_5/AN0_5/D5 (io), 84 P0_4/AN0_4/D4 (io), 85 P0_3/AN0_3/D3 (io), 86 P0_2/AN0_2/D2 (io), 87 P0_1/AN0_1/D1 (io), 88 P0_0/AN0_0/D0 (io), 89 P10_7/~{KI3}/AN7 (io), 90 P10_6/~{KI2}/AN6 (io), 91 P10_5/~{KI1}/AN5 (io), 92 P10_4/~{KI0}/AN4 (io), 93 P10_3/AN3 (io), 94 P10_2/AN2 (io), 95 P10_1/AN1 (io), 97 P10_0/AN0 (io), 98 VREF (in), 100 P9_7/RXD4/SCL4/~{ADTRG} (io)
part B pins: 14 VSS (power), 16 VCC1 (power), 62 VCC2 (power), 64 VSS (power), 96 AVSS (power), 99 AVCC (power)

## R5F36CAMDFB
designator U?
Flash Memory M16C/60 Series, 6C Group MCU, 512K + 24K ROM, 31K RAM, 100-pin LQFP, -40 to 85°C; Note: P7_0, P7_1 and P8_5 are N channel open-drain output pins.; Published: 28-Aug-2009; LatestRevisionDate: 26-Feb-2010; LatestRevisionNote: Updated to datasheet revision 1.00 Jul-2009.; DatasheetVersion: Rev.1.00, Jul-2009; PackageVersion: Sep-2005; PackageReference: PLQP0100KB-A; Publisher: Altium Limited; PackageDescription: 100-Pin Plastic Low Profile QFP, 14 x 14 x 1.4 mm Body, 0.5 mm Pitch; Code_JEITA: P-LQFP100-14x14-0.50; Code_IPC: SQFP50P1600X1600-100; ComponentLink1Description: Manufacturer Link; ComponentLink1URL: http://sg.renesas.com/fmwk.jsp?cnt=m16c_family_landing.jsp&fp=/products/mpumcu/m16c_family/; ComponentLink2Description: Datasheet; ComponentLink2URL: http://documentation.renesas.com/eng/products/mpumcu/rej03b0277_16c6cds.pdf; ComponentLink3Description: Packaging Specification; ComponentLink3URL: http://sg.renesas.com/media/products/common_info/package/pdf/ic/code/plqp0100kb_a.pdf
footprint PLQP0100KB-A_N (Shrink QFP, 100-Leads, Body 14x14mm, Pitch 0.5mm, IPC Medium Density)
footprint PLQP0100KB-A_L (Shrink QFP, 100-Leads, Body 14x14mm, Pitch 0.5mm, IPC High Density)
footprint PLQP0100KB-A_M (Shrink QFP, 100-Leads, Body 14x14mm, Pitch 0.5mm, IPC Low Density)
part A pins: 1 P9_4/TB4IN/~{CTS4}/~{RTS4}/DA1 (io), 2 P9_3/TB3IN/~{CTS3}/~{RTS3}/DA0 (io), 3 P9_2/TB2IN/TXD3/SDA3/ATTACH (io), 4 P9_1/TB1IN/RXD3/SCL3/D+ (io), 5 P9_0/TB0IN/CLK3/D- (io), 6 UVCC (power), 7 CNVSS (in), 8 XCIN/P8_7 (io), 9 XCOUT/P8_6 (io), 10 ~{RESET} (in), 11 XOUT (out), 13 XIN (in), 15 P8_5/~{NMI}/~{SD}/VbusDTCT (io), 16 P8_4/~{INT2}/ZP (io), 17 P8_3/~{INT1} (io), 18 P8_2/~{INT0} (io), 19 P8_1/TA4IN/~{U}/~{CTS5}/~{RTS5} (io), 20 P8_0/TA4OUT/U/RXD5/SCL5 (io), 21 P7_7/TA3IN/CLK5 (io), 22 P7_6/TA3OUT/TXD5/SDA5 (io), 23 P7_5/TA2IN/~{W} (io), 24 P7_4/TA2OUT/W (io), 25 P7_3/TA1IN/~{V}/~{CTS2}/~{RTS2} (io), 26 P7_2/TA1OUT/V/CLK2 (io), 27 P7_1/TA0IN/TB5IN/RXD2/SCL2/SCLMM (io), 28 P7_0/TA0OUT/TXD2/SDA2/SDAMM (io), 29 P6_7/TXD1/SDA1 (io), 30 P6_6/RXD1/SCL1 (io), 31 P6_5/CLK1 (io), 32 P6_4/~{CTS1}/~{RTS1}/~{CTS0}/CLKS1 (io), 33 P6_3/TXD0/SDA0 (io), 34 P6_2/RXD0/SCL0 (io), 35 P6_1/CLK0 (io), 36 P6_0/RTCOUT/~{CTS0}/~{RTS0} (io), 37 P5_7/~{RDY}/CLKOUT (io), 38 P5_6/ALE (io), 39 P5_5/~{HOLD} (io), 40 P5_4/~{HLDA} (io), 41 P5_3/BCLK (io), 42 P5_2/~{RD} (io), 43 P5_1/~{BHE} (io), 44 P5_0/~{WR} (io), 45 P4_7/~{CS3} (io), 46 P4_6/~{CS2} (io), 47 P4_5/~{CS1} (io), 48 P4_4/~{CS0} (io), 49 P4_3/A19 (io), 50 P4_2/A18 (io), 51 P4_1/A17 (io), 52 P4_0/A16 (io), 53 P3_7/A15 (io), 54 P3_6/A14 (io), 55 P3_5/A13 (io), 56 P3_4/A12 (io), 57 P3_3/A11 (io), 58 P3_2/A10 (io), 59 P3_1/A9 (io), 61 P3_0/A8 (io), 63 P2_7/OUTC17/INPC17/AN2_7/A7,[A7/D7] (io), 64 P2_6/OUTC16/INPC16/AN2_6/A6,[A6/D6] (io), 65 P2_5/~{INT7}/OUTC15/INPC15/AN2_5/A5,[A5/D5] (io), 66 P2_4/~{INT6}/OUTC14/INPC14/AN2_4/A4,[A4/D4] (io), 67 P2_3/OUTC13/INPC13/AN2_3/A3,[A3/D3] (io), 68 P2_2/OUTC12/INPC12/AN2_2/A2,[A2/D2] (io), 69 P2_1/OUTC11/INPC11/AN2_1/A1,[A1/D1] (io), 70 P2_0/OUTC10/INPC10/AN2_0/A0,[A0/D0] (io), 71 P1_7/~{INT5}/IDU (io), 72 P1_6/~{INT4}/IDW (io), 73 P1_5/~{INT3}/IDV (io), 74 P1_4 (io), 75 P1_3 (io), 76 P1_2 (io), 77 P1_1 (io), 78 P1_0 (io), 79 P0_7/AN0_7/D7 (io), 80 P0_6/AN0_6/D6 (io), 81 P0_5/AN0_5/D5 (io), 82 P0_4/AN0_4/D4 (io), 83 P0_3/AN0_3/D3 (io), 84 P0_2/AN0_2/D2 (io), 85 P0_1/AN0_1/D1 (io), 86 P0_0/AN0_0/D0 (io), 87 P10_7/~{KI3}/AN7 (io), 88 P10_6/~{KI2}/AN6 (io), 89 P10_5/~{KI1}/AN5 (io), 90 P10_4/~{KI0}/AN4 (io), 91 P10_3/AN3 (io), 92 P10_2/AN2 (io), 93 P10_1/AN1 (io), 95 P10_0/AN0 (io), 96 VREF (in), 98 P9_7/RXD4/SCL4/~{ADTRG} (io), 99 P9_6/TXD4/SDA4/ANEX1 (io), 100 P9_5/CLK4/ANEX0 (io)
part B pins: 12 VSS (power), 14 VCC1 (power), 60 VCC2 (power), 62 VSS (power), 94 AVSS (power), 97 AVCC (power)

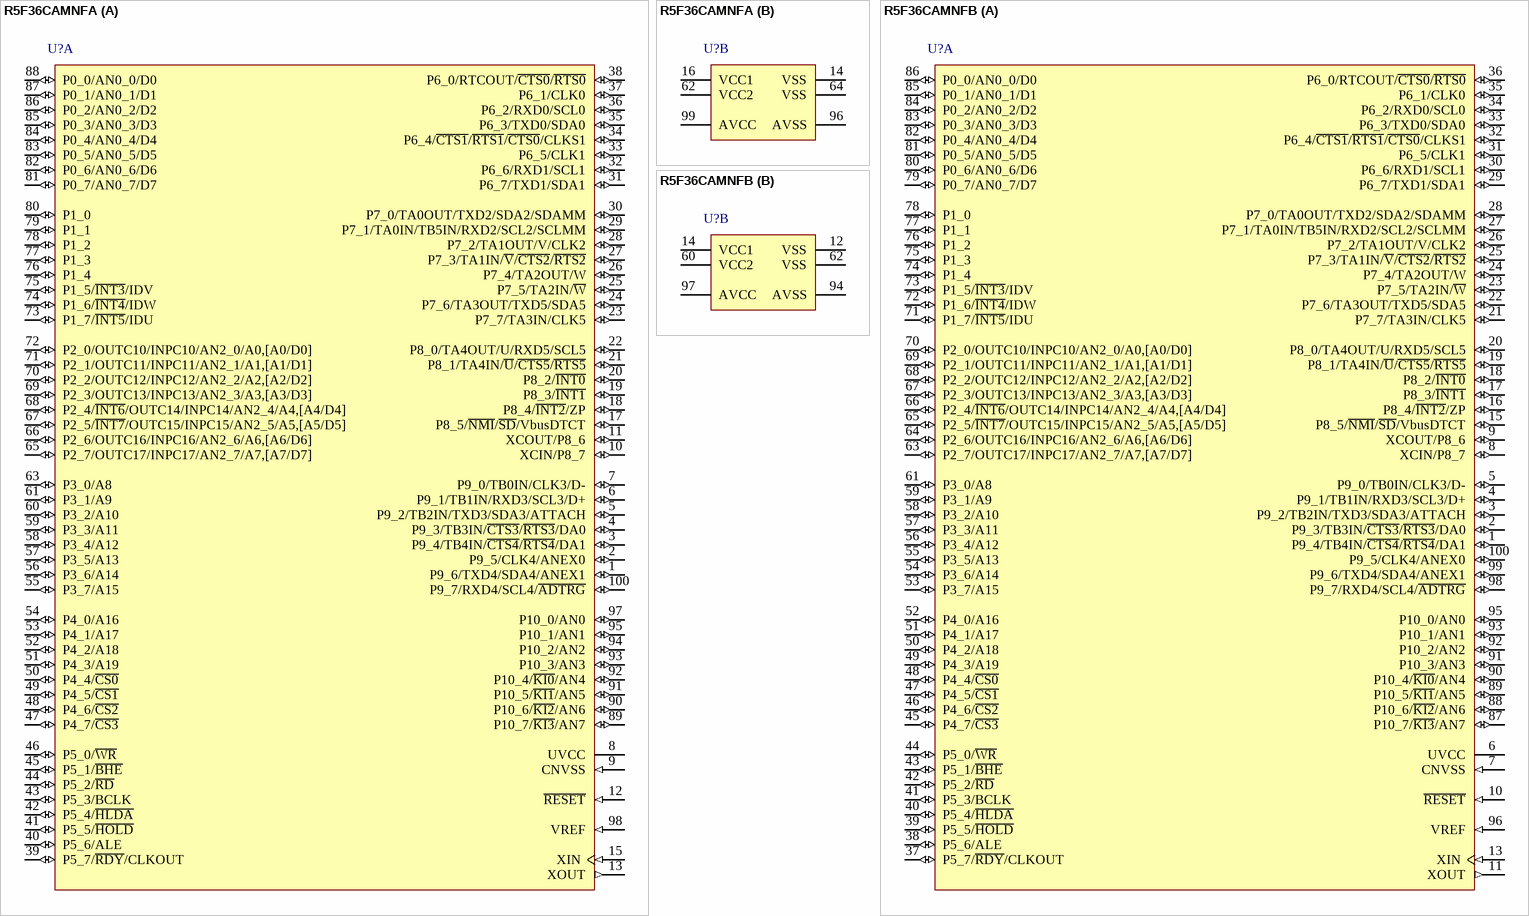
[diagram p143: symbols R5F36CAMNFA to R5F36CAMNFB]

## R5F36CAMNFA
designator U?
Flash Memory M16C/60 Series, 6C Group MCU, 512K + 24K ROM, 31K RAM, 100-pin RQFP, -20 to 85°C; Note: P7_0, P7_1 and P8_5 are N channel open-drain output pins.; Published: 26-Feb-2010; DatasheetVersion: Rev.1.00, Jul-2009; PackageVersion: Nov-2006; PackageReference: PRQP0100JD-B; Publisher: Altium Limited; PackageDescription: 100-Pin Plastic Quad Flat Pack, 20 x 14 x 2.8 mm Body, 0.65 mm Pitch; Code_JEITA: P-QFP100-14x20-0.65; ComponentLink1Description: Manufacturer Link; ComponentLink1URL: http://sg.renesas.com/fmwk.jsp?cnt=m16c_family_landing.jsp&fp=/products/mpumcu/m16c_family/; ComponentLink2Description: Datasheet; ComponentLink2URL: http://documentation.renesas.com/eng/products/mpumcu/rej03b0277_16c6cds.pdf; ComponentLink3Description: Packaging Specification; ComponentLink3URL: http://sg.renesas.com/media/products/common_info/package/pdf/ic/code/prqp0100jd_b.pdf
footprint PRQP0100JD-B_N (QFP, 100-Leads, Body 20x14mm, Pitch 0.65mm, IPC Medium Density)
footprint PRQP0100JD-B_L (QFP, 100-Leads, Body 20x14mm, Pitch 0.65mm, IPC High Density)
footprint PRQP0100JD-B_M (QFP, 100-Leads, Body 20x14mm, Pitch 0.65mm, IPC Low Density)
part A pins: 1 P9_6/TXD4/SDA4/ANEX1 (io), 2 P9_5/CLK4/ANEX0 (io), 3 P9_4/TB4IN/~{CTS4}/~{RTS4}/DA1 (io), 4 P9_3/TB3IN/~{CTS3}/~{RTS3}/DA0 (io), 5 P9_2/TB2IN/TXD3/SDA3/ATTACH (io), 6 P9_1/TB1IN/RXD3/SCL3/D+ (io), 7 P9_0/TB0IN/CLK3/D- (io), 8 UVCC (power), 9 CNVSS (in), 10 XCIN/P8_7 (io), 11 XCOUT/P8_6 (io), 12 ~{RESET} (in), 13 XOUT (out), 15 XIN (in), 17 P8_5/~{NMI}/~{SD}/VbusDTCT (io), 18 P8_4/~{INT2}/ZP (io), 19 P8_3/~{INT1} (io), 20 P8_2/~{INT0} (io), 21 P8_1/TA4IN/~{U}/~{CTS5}/~{RTS5} (io), 22 P8_0/TA4OUT/U/RXD5/SCL5 (io), 23 P7_7/TA3IN/CLK5 (io), 24 P7_6/TA3OUT/TXD5/SDA5 (io), 25 P7_5/TA2IN/~{W} (io), 26 P7_4/TA2OUT/W (io), 27 P7_3/TA1IN/~{V}/~{CTS2}/~{RTS2} (io), 28 P7_2/TA1OUT/V/CLK2 (io), 29 P7_1/TA0IN/TB5IN/RXD2/SCL2/SCLMM (io), 30 P7_0/TA0OUT/TXD2/SDA2/SDAMM (io), 31 P6_7/TXD1/SDA1 (io), 32 P6_6/RXD1/SCL1 (io), 33 P6_5/CLK1 (io), 34 P6_4/~{CTS1}/~{RTS1}/~{CTS0}/CLKS1 (io), 35 P6_3/TXD0/SDA0 (io), 36 P6_2/RXD0/SCL0 (io), 37 P6_1/CLK0 (io), 38 P6_0/RTCOUT/~{CTS0}/~{RTS0} (io), 39 P5_7/~{RDY}/CLKOUT (io), 40 P5_6/ALE (io), 41 P5_5/~{HOLD} (io), 42 P5_4/~{HLDA} (io), 43 P5_3/BCLK (io), 44 P5_2/~{RD} (io), 45 P5_1/~{BHE} (io), 46 P5_0/~{WR} (io), 47 P4_7/~{CS3} (io), 48 P4_6/~{CS2} (io), 49 P4_5/~{CS1} (io), 50 P4_4/~{CS0} (io), 51 P4_3/A19 (io), 52 P4_2/A18 (io), 53 P4_1/A17 (io), 54 P4_0/A16 (io), 55 P3_7/A15 (io), 56 P3_6/A14 (io), 57 P3_5/A13 (io), 58 P3_4/A12 (io), 59 P3_3/A11 (io), 60 P3_2/A10 (io), 61 P3_1/A9 (io), 63 P3_0/A8 (io), 65 P2_7/OUTC17/INPC17/AN2_7/A7,[A7/D7] (io), 66 P2_6/OUTC16/INPC16/AN2_6/A6,[A6/D6] (io), 67 P2_5/~{INT7}/OUTC15/INPC15/AN2_5/A5,[A5/D5] (io), 68 P2_4/~{INT6}/OUTC14/INPC14/AN2_4/A4,[A4/D4] (io), 69 P2_3/OUTC13/INPC13/AN2_3/A3,[A3/D3] (io), 70 P2_2/OUTC12/INPC12/AN2_2/A2,[A2/D2] (io), 71 P2_1/OUTC11/INPC11/AN2_1/A1,[A1/D1] (io), 72 P2_0/OUTC10/INPC10/AN2_0/A0,[A0/D0] (io), 73 P1_7/~{INT5}/IDU (io), 74 P1_6/~{INT4}/IDW (io), 75 P1_5/~{INT3}/IDV (io), 76 P1_4 (io), 77 P1_3 (io), 78 P1_2 (io), 79 P1_1 (io), 80 P1_0 (io), 81 P0_7/AN0_7/D7 (io), 82 P0_6/AN0_6/D6 (io), 83 P0_5/AN0_5/D5 (io), 84 P0_4/AN0_4/D4 (io), 85 P0_3/AN0_3/D3 (io), 86 P0_2/AN0_2/D2 (io), 87 P0_1/AN0_1/D1 (io), 88 P0_0/AN0_0/D0 (io), 89 P10_7/~{KI3}/AN7 (io), 90 P10_6/~{KI2}/AN6 (io), 91 P10_5/~{KI1}/AN5 (io), 92 P10_4/~{KI0}/AN4 (io), 93 P10_3/AN3 (io), 94 P10_2/AN2 (io), 95 P10_1/AN1 (io), 97 P10_0/AN0 (io), 98 VREF (in), 100 P9_7/RXD4/SCL4/~{ADTRG} (io)
part B pins: 14 VSS (power), 16 VCC1 (power), 62 VCC2 (power), 64 VSS (power), 96 AVSS (power), 99 AVCC (power)

## R5F36CAMNFB
designator U?
Flash Memory M16C/60 Series, 6C Group MCU, 512K + 24K ROM, 31K RAM, 100-pin LQFP, -20 to 85°C; Note: P7_0, P7_1 and P8_5 are N channel open-drain output pins.; Published: 28-Aug-2009; LatestRevisionDate: 26-Feb-2010; LatestRevisionNote: Updated to datasheet revision 1.00 Jul-2009.; DatasheetVersion: Rev.1.00, Jul-2009; PackageVersion: Sep-2005; PackageReference: PLQP0100KB-A; Publisher: Altium Limited; PackageDescription: 100-Pin Plastic Low Profile QFP, 14 x 14 x 1.4 mm Body, 0.5 mm Pitch; Code_JEITA: P-LQFP100-14x14-0.50; Code_IPC: SQFP50P1600X1600-100; ComponentLink1Description: Manufacturer Link; ComponentLink1URL: http://sg.renesas.com/fmwk.jsp?cnt=m16c_family_landing.jsp&fp=/products/mpumcu/m16c_family/; ComponentLink2Description: Datasheet; ComponentLink2URL: http://documentation.renesas.com/eng/products/mpumcu/rej03b0277_16c6cds.pdf; ComponentLink3Description: Packaging Specification; ComponentLink3URL: http://sg.renesas.com/media/products/common_info/package/pdf/ic/code/plqp0100kb_a.pdf
footprint PLQP0100KB-A_N (Shrink QFP, 100-Leads, Body 14x14mm, Pitch 0.5mm, IPC Medium Density)
footprint PLQP0100KB-A_L (Shrink QFP, 100-Leads, Body 14x14mm, Pitch 0.5mm, IPC High Density)
footprint PLQP0100KB-A_M (Shrink QFP, 100-Leads, Body 14x14mm, Pitch 0.5mm, IPC Low Density)
part A pins: 1 P9_4/TB4IN/~{CTS4}/~{RTS4}/DA1 (io), 2 P9_3/TB3IN/~{CTS3}/~{RTS3}/DA0 (io), 3 P9_2/TB2IN/TXD3/SDA3/ATTACH (io), 4 P9_1/TB1IN/RXD3/SCL3/D+ (io), 5 P9_0/TB0IN/CLK3/D- (io), 6 UVCC (power), 7 CNVSS (in), 8 XCIN/P8_7 (io), 9 XCOUT/P8_6 (io), 10 ~{RESET} (in), 11 XOUT (out), 13 XIN (in), 15 P8_5/~{NMI}/~{SD}/VbusDTCT (io), 16 P8_4/~{INT2}/ZP (io), 17 P8_3/~{INT1} (io), 18 P8_2/~{INT0} (io), 19 P8_1/TA4IN/~{U}/~{CTS5}/~{RTS5} (io), 20 P8_0/TA4OUT/U/RXD5/SCL5 (io), 21 P7_7/TA3IN/CLK5 (io), 22 P7_6/TA3OUT/TXD5/SDA5 (io), 23 P7_5/TA2IN/~{W} (io), 24 P7_4/TA2OUT/W (io), 25 P7_3/TA1IN/~{V}/~{CTS2}/~{RTS2} (io), 26 P7_2/TA1OUT/V/CLK2 (io), 27 P7_1/TA0IN/TB5IN/RXD2/SCL2/SCLMM (io), 28 P7_0/TA0OUT/TXD2/SDA2/SDAMM (io), 29 P6_7/TXD1/SDA1 (io), 30 P6_6/RXD1/SCL1 (io), 31 P6_5/CLK1 (io), 32 P6_4/~{CTS1}/~{RTS1}/~{CTS0}/CLKS1 (io), 33 P6_3/TXD0/SDA0 (io), 34 P6_2/RXD0/SCL0 (io), 35 P6_1/CLK0 (io), 36 P6_0/RTCOUT/~{CTS0}/~{RTS0} (io), 37 P5_7/~{RDY}/CLKOUT (io), 38 P5_6/ALE (io), 39 P5_5/~{HOLD} (io), 40 P5_4/~{HLDA} (io), 41 P5_3/BCLK (io), 42 P5_2/~{RD} (io), 43 P5_1/~{BHE} (io), 44 P5_0/~{WR} (io), 45 P4_7/~{CS3} (io), 46 P4_6/~{CS2} (io), 47 P4_5/~{CS1} (io), 48 P4_4/~{CS0} (io), 49 P4_3/A19 (io), 50 P4_2/A18 (io), 51 P4_1/A17 (io), 52 P4_0/A16 (io), 53 P3_7/A15 (io), 54 P3_6/A14 (io), 55 P3_5/A13 (io), 56 P3_4/A12 (io), 57 P3_3/A11 (io), 58 P3_2/A10 (io), 59 P3_1/A9 (io), 61 P3_0/A8 (io), 63 P2_7/OUTC17/INPC17/AN2_7/A7,[A7/D7] (io), 64 P2_6/OUTC16/INPC16/AN2_6/A6,[A6/D6] (io), 65 P2_5/~{INT7}/OUTC15/INPC15/AN2_5/A5,[A5/D5] (io), 66 P2_4/~{INT6}/OUTC14/INPC14/AN2_4/A4,[A4/D4] (io), 67 P2_3/OUTC13/INPC13/AN2_3/A3,[A3/D3] (io), 68 P2_2/OUTC12/INPC12/AN2_2/A2,[A2/D2] (io), 69 P2_1/OUTC11/INPC11/AN2_1/A1,[A1/D1] (io), 70 P2_0/OUTC10/INPC10/AN2_0/A0,[A0/D0] (io), 71 P1_7/~{INT5}/IDU (io), 72 P1_6/~{INT4}/IDW (io), 73 P1_5/~{INT3}/IDV (io), 74 P1_4 (io), 75 P1_3 (io), 76 P1_2 (io), 77 P1_1 (io), 78 P1_0 (io), 79 P0_7/AN0_7/D7 (io), 80 P0_6/AN0_6/D6 (io), 81 P0_5/AN0_5/D5 (io), 82 P0_4/AN0_4/D4 (io), 83 P0_3/AN0_3/D3 (io), 84 P0_2/AN0_2/D2 (io), 85 P0_1/AN0_1/D1 (io), 86 P0_0/AN0_0/D0 (io), 87 P10_7/~{KI3}/AN7 (io), 88 P10_6/~{KI2}/AN6 (io), 89 P10_5/~{KI1}/AN5 (io), 90 P10_4/~{KI0}/AN4 (io), 91 P10_3/AN3 (io), 92 P10_2/AN2 (io), 93 P10_1/AN1 (io), 95 P10_0/AN0 (io), 96 VREF (in), 98 P9_7/RXD4/SCL4/~{ADTRG} (io), 99 P9_6/TXD4/SDA4/ANEX1 (io), 100 P9_5/CLK4/ANEX0 (io)
part B pins: 12 VSS (power), 14 VCC1 (power), 60 VCC2 (power), 62 VSS (power), 94 AVSS (power), 97 AVCC (power)

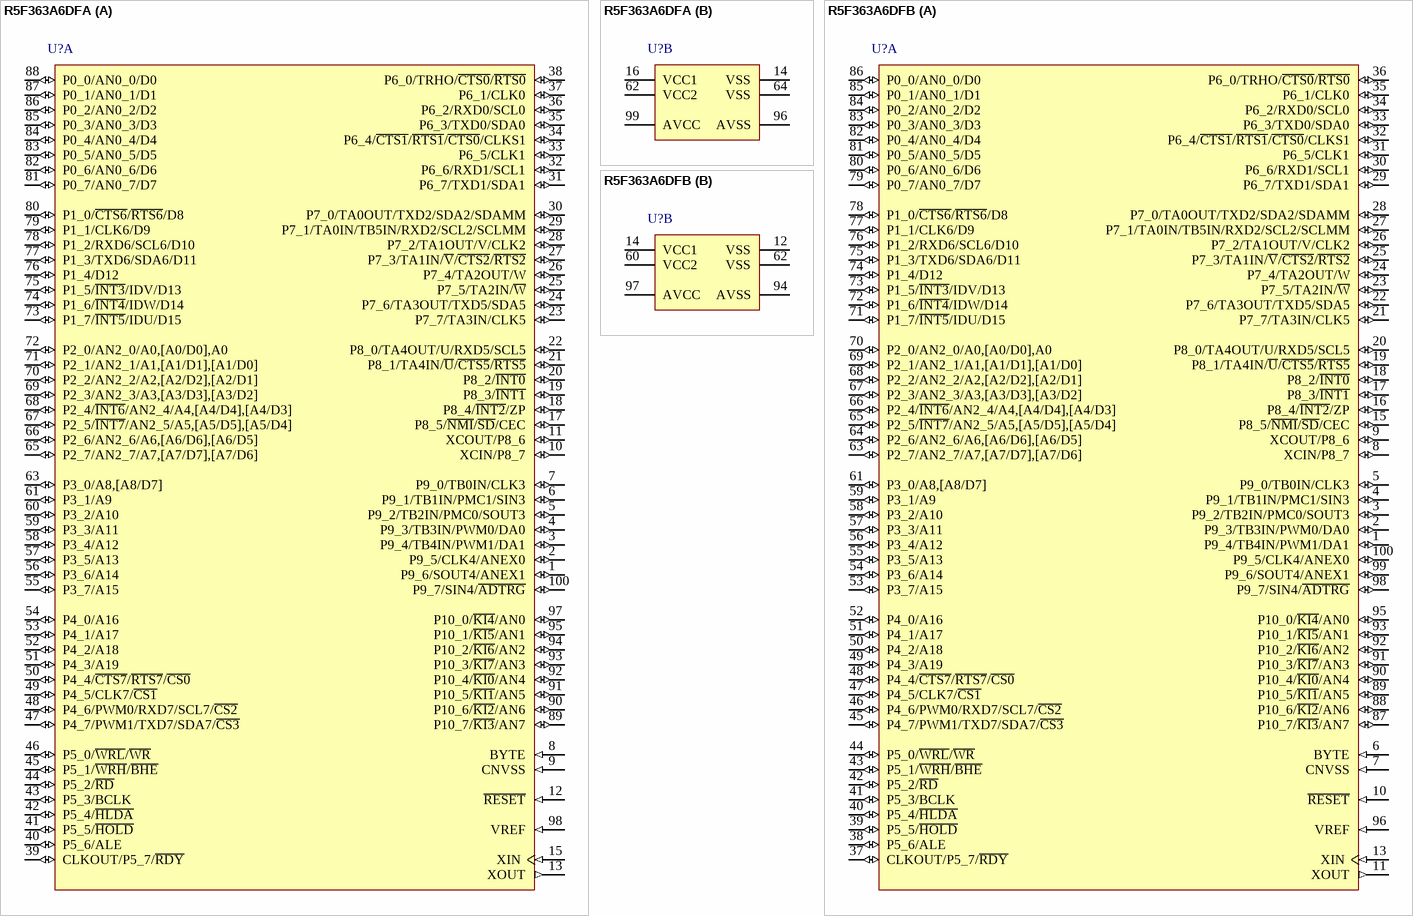
[diagram p144: symbols R5F363A6DFA to R5F363A6DFB]

## R5F363A6DFA
designator U?
Flash Memory M16C/60 Series, 63 Group MCU, 128K + 24K ROM, 12K RAM, 100-pin RQFP, -40 to 85°C; Published: 26-Feb-2010; DatasheetVersion: Rev.1.00, Sep-2009; PackageVersion: Nov-2006; PackageReference: PRQP0100JD-B; Publisher: Altium Limited; PackageDescription: 100-Pin Plastic Quad Flat Pack, 20 x 14 x 2.8 mm Body, 0.65 mm Pitch; Code_JEITA: P-QFP100-14x20-0.65; ComponentLink1Description: Manufacturer Link; ComponentLink1URL: http://sg.renesas.com/fmwk.jsp?cnt=m16c_family_landing.jsp&fp=/products/mpumcu/m16c_family/; ComponentLink2Description: Datasheet; ComponentLink2URL: http://documentation.renesas.com/eng/products/mpumcu/rej03b0271_16c63ds.pdf; ComponentLink3Description: Packaging Specification; ComponentLink3URL: http://sg.renesas.com/media/products/common_info/package/pdf/ic/code/prqp0100jd_b.pdf
footprint PRQP0100JD-B_N (QFP, 100-Leads, Body 20x14mm, Pitch 0.65mm, IPC Medium Density)
footprint PRQP0100JD-B_L (QFP, 100-Leads, Body 20x14mm, Pitch 0.65mm, IPC High Density)
footprint PRQP0100JD-B_M (QFP, 100-Leads, Body 20x14mm, Pitch 0.65mm, IPC Low Density)
part A pins: 1 P9_6/SOUT4/ANEX1 (io), 2 P9_5/CLK4/ANEX0 (io), 3 P9_4/TB4IN/PWM1/DA1 (io), 4 P9_3/TB3IN/PWM0/DA0 (io), 5 P9_2/TB2IN/PMC0/SOUT3 (io), 6 P9_1/TB1IN/PMC1/SIN3 (io), 7 P9_0/TB0IN/CLK3 (io), 8 BYTE (in), 9 CNVSS (in), 10 XCIN/P8_7 (io), 11 XCOUT/P8_6 (io), 12 ~{RESET} (in), 13 XOUT (out), 15 XIN (in), 17 P8_5/~{NMI}/~{SD}/CEC (io), 18 P8_4/~{INT2}/ZP (io), 19 P8_3/~{INT1} (io), 20 P8_2/~{INT0} (io), 21 P8_1/TA4IN/~{U}/~{CTS5}/~{RTS5} (io), 22 P8_0/TA4OUT/U/RXD5/SCL5 (io), 23 P7_7/TA3IN/CLK5 (io), 24 P7_6/TA3OUT/TXD5/SDA5 (io), 25 P7_5/TA2IN/~{W} (io), 26 P7_4/TA2OUT/W (io), 27 P7_3/TA1IN/~{V}/~{CTS2}/~{RTS2} (io), 28 P7_2/TA1OUT/V/CLK2 (io), 29 P7_1/TA0IN/TB5IN/RXD2/SCL2/SCLMM (io), 30 P7_0/TA0OUT/TXD2/SDA2/SDAMM (io), 31 P6_7/TXD1/SDA1 (io), 32 P6_6/RXD1/SCL1 (io), 33 P6_5/CLK1 (io), 34 P6_4/~{CTS1}/~{RTS1}/~{CTS0}/CLKS1 (io), 35 P6_3/TXD0/SDA0 (io), 36 P6_2/RXD0/SCL0 (io), 37 P6_1/CLK0 (io), 38 P6_0/TRHO/~{CTS0}/~{RTS0} (io), 39 CLKOUT/P5_7/~{RDY} (io), 40 P5_6/ALE (io), 41 P5_5/~{HOLD} (io), 42 P5_4/~{HLDA} (io), 43 P5_3/BCLK (io), 44 P5_2/~{RD} (io), 45 P5_1/~{WRH}/~{BHE} (io), 46 P5_0/~{WRL}/~{WR} (io), 47 P4_7/PWM1/TXD7/SDA7/~{CS3} (io), 48 P4_6/PWM0/RXD7/SCL7/~{CS2} (io), 49 P4_5/CLK7/~{CS1} (io), 50 P4_4/~{CTS7}/~{RTS7}/~{CS0} (io), 51 P4_3/A19 (io), 52 P4_2/A18 (io), 53 P4_1/A17 (io), 54 P4_0/A16 (io), 55 P3_7/A15 (io), 56 P3_6/A14 (io), 57 P3_5/A13 (io), 58 P3_4/A12 (io), 59 P3_3/A11 (io), 60 P3_2/A10 (io), 61 P3_1/A9 (io), 63 P3_0/A8,[A8/D7] (io), 65 P2_7/AN2_7/A7,[A7/D7],[A7/D6] (io), 66 P2_6/AN2_6/A6,[A6/D6],[A6/D5] (io), 67 P2_5/~{INT7}/AN2_5/A5,[A5/D5],[A5/D4] (io), 68 P2_4/~{INT6}/AN2_4/A4,[A4/D4],[A4/D3] (io), 69 P2_3/AN2_3/A3,[A3/D3],[A3/D2] (io), 70 P2_2/AN2_2/A2,[A2/D2],[A2/D1] (io), 71 P2_1/AN2_1/A1,[A1/D1],[A1/D0] (io), 72 P2_0/AN2_0/A0,[A0/D0],A0 (io), 73 P1_7/~{INT5}/IDU/D15 (io), 74 P1_6/~{INT4}/IDW/D14 (io), 75 P1_5/~{INT3}/IDV/D13 (io), 76 P1_4/D12 (io), 77 P1_3/TXD6/SDA6/D11 (io), 78 P1_2/RXD6/SCL6/D10 (io), 79 P1_1/CLK6/D9 (io), 80 P1_0/~{CTS6}/~{RTS6}/D8 (io), 81 P0_7/AN0_7/D7 (io), 82 P0_6/AN0_6/D6 (io), 83 P0_5/AN0_5/D5 (io), 84 P0_4/AN0_4/D4 (io), 85 P0_3/AN0_3/D3 (io), 86 P0_2/AN0_2/D2 (io), 87 P0_1/AN0_1/D1 (io), 88 P0_0/AN0_0/D0 (io), 89 P10_7/~{KI3}/AN7 (io), 90 P10_6/~{KI2}/AN6 (io), 91 P10_5/~{KI1}/AN5 (io), 92 P10_4/~{KI0}/AN4 (io), 93 P10_3/~{KI7}/AN3 (io), 94 P10_2/~{KI6}/AN2 (io), 95 P10_1/~{KI5}/AN1 (io), 97 P10_0/~{KI4}/AN0 (io), 98 VREF (in), 100 P9_7/SIN4/~{ADTRG} (io)
part B pins: 14 VSS (power), 16 VCC1 (power), 62 VCC2 (power), 64 VSS (power), 96 AVSS (power), 99 AVCC (power)

## R5F363A6DFB
designator U?
Flash Memory M16C/60 Series, 63 Group MCU, 128K + 24K ROM, 12K RAM, 100-pin LQFP, -40 to 85°C; Published: 26-Feb-2010; DatasheetVersion: Rev.1.00, Sep-2009; PackageVersion: Sep-2005; PackageReference: PLQP0100KB-A; Publisher: Altium Limited; PackageDescription: 100-Pin Plastic Low Profile QFP, 14 x 14 x 1.4 mm Body, 0.5 mm Pitch; Code_JEITA: P-LQFP100-14x14-0.50; Code_IPC: SQFP50P1600X1600-100; ComponentLink1Description: Manufacturer Link; ComponentLink1URL: http://sg.renesas.com/fmwk.jsp?cnt=m16c_family_landing.jsp&fp=/products/mpumcu/m16c_family/; ComponentLink2Description: Datasheet; ComponentLink2URL: http://documentation.renesas.com/eng/products/mpumcu/rej03b0271_16c63ds.pdf; ComponentLink3Description: Packaging Specification; ComponentLink3URL: http://sg.renesas.com/media/products/common_info/package/pdf/ic/code/plqp0100kb_a.pdf
footprint PLQP0100KB-A_N (Shrink QFP, 100-Leads, Body 14x14mm, Pitch 0.5mm, IPC Medium Density)
footprint PLQP0100KB-A_L (Shrink QFP, 100-Leads, Body 14x14mm, Pitch 0.5mm, IPC High Density)
footprint PLQP0100KB-A_M (Shrink QFP, 100-Leads, Body 14x14mm, Pitch 0.5mm, IPC Low Density)
part A pins: 1 P9_4/TB4IN/PWM1/DA1 (io), 2 P9_3/TB3IN/PWM0/DA0 (io), 3 P9_2/TB2IN/PMC0/SOUT3 (io), 4 P9_1/TB1IN/PMC1/SIN3 (io), 5 P9_0/TB0IN/CLK3 (io), 6 BYTE (in), 7 CNVSS (in), 8 XCIN/P8_7 (io), 9 XCOUT/P8_6 (io), 10 ~{RESET} (in), 11 XOUT (out), 13 XIN (in), 15 P8_5/~{NMI}/~{SD}/CEC (io), 16 P8_4/~{INT2}/ZP (io), 17 P8_3/~{INT1} (io), 18 P8_2/~{INT0} (io), 19 P8_1/TA4IN/~{U}/~{CTS5}/~{RTS5} (io), 20 P8_0/TA4OUT/U/RXD5/SCL5 (io), 21 P7_7/TA3IN/CLK5 (io), 22 P7_6/TA3OUT/TXD5/SDA5 (io), 23 P7_5/TA2IN/~{W} (io), 24 P7_4/TA2OUT/W (io), 25 P7_3/TA1IN/~{V}/~{CTS2}/~{RTS2} (io), 26 P7_2/TA1OUT/V/CLK2 (io), 27 P7_1/TA0IN/TB5IN/RXD2/SCL2/SCLMM (io), 28 P7_0/TA0OUT/TXD2/SDA2/SDAMM (io), 29 P6_7/TXD1/SDA1 (io), 30 P6_6/RXD1/SCL1 (io), 31 P6_5/CLK1 (io), 32 P6_4/~{CTS1}/~{RTS1}/~{CTS0}/CLKS1 (io), 33 P6_3/TXD0/SDA0 (io), 34 P6_2/RXD0/SCL0 (io), 35 P6_1/CLK0 (io), 36 P6_0/TRHO/~{CTS0}/~{RTS0} (io), 37 CLKOUT/P5_7/~{RDY} (io), 38 P5_6/ALE (io), 39 P5_5/~{HOLD} (io), 40 P5_4/~{HLDA} (io), 41 P5_3/BCLK (io), 42 P5_2/~{RD} (io), 43 P5_1/~{WRH}/~{BHE} (io), 44 P5_0/~{WRL}/~{WR} (io), 45 P4_7/PWM1/TXD7/SDA7/~{CS3} (io), 46 P4_6/PWM0/RXD7/SCL7/~{CS2} (io), 47 P4_5/CLK7/~{CS1} (io), 48 P4_4/~{CTS7}/~{RTS7}/~{CS0} (io), 49 P4_3/A19 (io), 50 P4_2/A18 (io), 51 P4_1/A17 (io), 52 P4_0/A16 (io), 53 P3_7/A15 (io), 54 P3_6/A14 (io), 55 P3_5/A13 (io), 56 P3_4/A12 (io), 57 P3_3/A11 (io), 58 P3_2/A10 (io), 59 P3_1/A9 (io), 61 P3_0/A8,[A8/D7] (io), 63 P2_7/AN2_7/A7,[A7/D7],[A7/D6] (io), 64 P2_6/AN2_6/A6,[A6/D6],[A6/D5] (io), 65 P2_5/~{INT7}/AN2_5/A5,[A5/D5],[A5/D4] (io), 66 P2_4/~{INT6}/AN2_4/A4,[A4/D4],[A4/D3] (io), 67 P2_3/AN2_3/A3,[A3/D3],[A3/D2] (io), 68 P2_2/AN2_2/A2,[A2/D2],[A2/D1] (io), 69 P2_1/AN2_1/A1,[A1/D1],[A1/D0] (io), 70 P2_0/AN2_0/A0,[A0/D0],A0 (io), 71 P1_7/~{INT5}/IDU/D15 (io), 72 P1_6/~{INT4}/IDW/D14 (io), 73 P1_5/~{INT3}/IDV/D13 (io), 74 P1_4/D12 (io), 75 P1_3/TXD6/SDA6/D11 (io), 76 P1_2/RXD6/SCL6/D10 (io), 77 P1_1/CLK6/D9 (io), 78 P1_0/~{CTS6}/~{RTS6}/D8 (io), 79 P0_7/AN0_7/D7 (io), 80 P0_6/AN0_6/D6 (io), 81 P0_5/AN0_5/D5 (io), 82 P0_4/AN0_4/D4 (io), 83 P0_3/AN0_3/D3 (io), 84 P0_2/AN0_2/D2 (io), 85 P0_1/AN0_1/D1 (io), 86 P0_0/AN0_0/D0 (io), 87 P10_7/~{KI3}/AN7 (io), 88 P10_6/~{KI2}/AN6 (io), 89 P10_5/~{KI1}/AN5 (io), 90 P10_4/~{KI0}/AN4 (io), 91 P10_3/~{KI7}/AN3 (io), 92 P10_2/~{KI6}/AN2 (io), 93 P10_1/~{KI5}/AN1 (io), 95 P10_0/~{KI4}/AN0 (io), 96 VREF (in), 98 P9_7/SIN4/~{ADTRG} (io), 99 P9_6/SOUT4/ANEX1 (io), 100 P9_5/CLK4/ANEX0 (io)
part B pins: 12 VSS (power), 14 VCC1 (power), 60 VCC2 (power), 62 VSS (power), 94 AVSS (power), 97 AVCC (power)

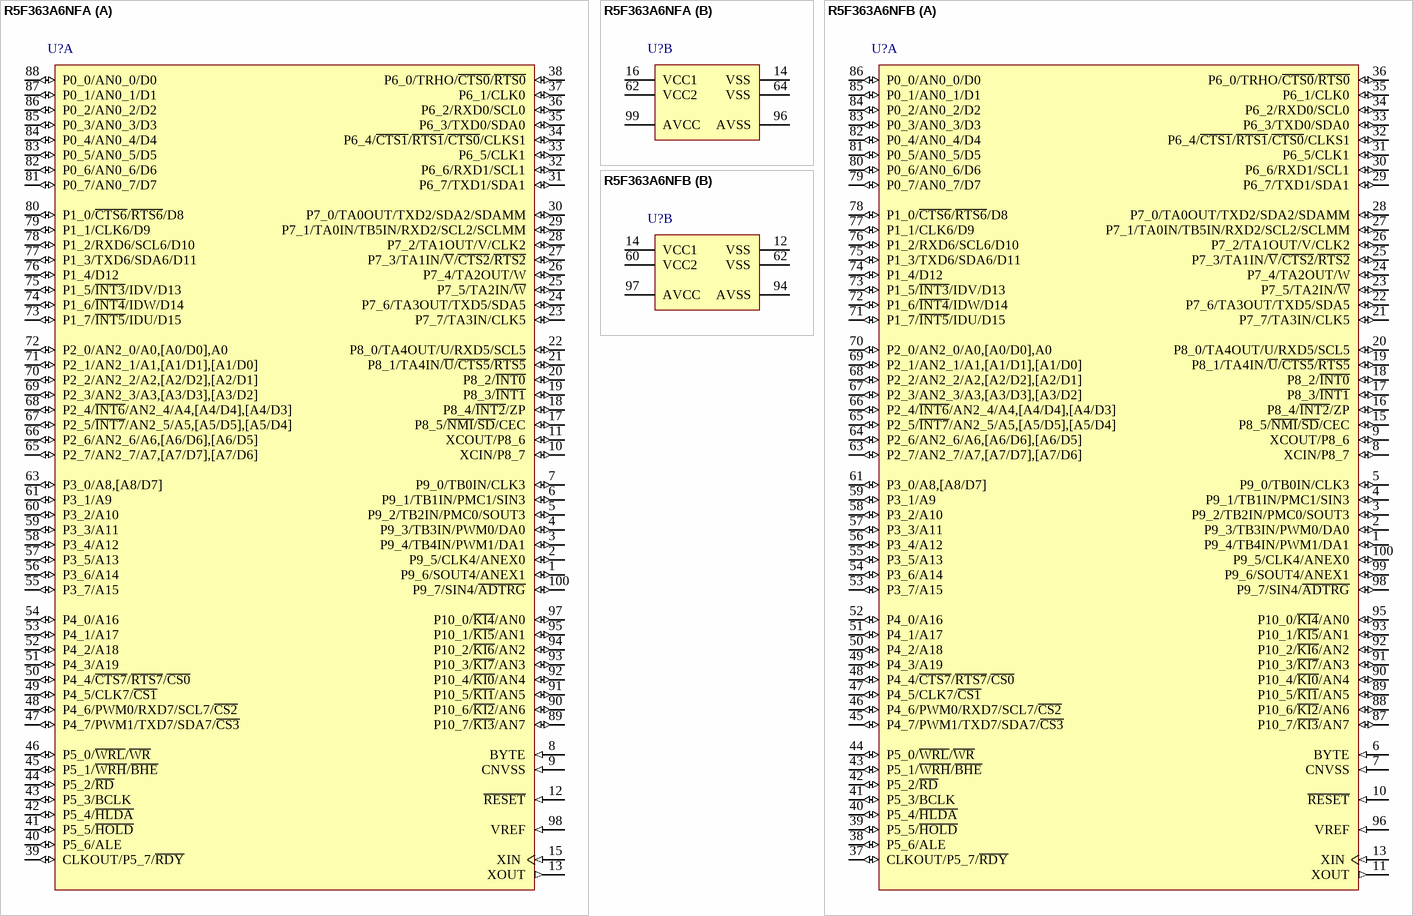
[diagram p145: symbols R5F363A6NFA to R5F363A6NFB]

## R5F363A6NFA
designator U?
Flash Memory M16C/60 Series, 63 Group MCU, 128K + 24K ROM, 12K RAM, 100-pin RQFP, -20 to 85°C; Published: 26-Feb-2010; DatasheetVersion: Rev.1.00, Sep-2009; PackageVersion: Nov-2006; PackageReference: PRQP0100JD-B; Publisher: Altium Limited; PackageDescription: 100-Pin Plastic Quad Flat Pack, 20 x 14 x 2.8 mm Body, 0.65 mm Pitch; Code_JEITA: P-QFP100-14x20-0.65; ComponentLink1Description: Manufacturer Link; ComponentLink1URL: http://sg.renesas.com/fmwk.jsp?cnt=m16c_family_landing.jsp&fp=/products/mpumcu/m16c_family/; ComponentLink2Description: Datasheet; ComponentLink2URL: http://documentation.renesas.com/eng/products/mpumcu/rej03b0271_16c63ds.pdf; ComponentLink3Description: Packaging Specification; ComponentLink3URL: http://sg.renesas.com/media/products/common_info/package/pdf/ic/code/prqp0100jd_b.pdf
footprint PRQP0100JD-B_N (QFP, 100-Leads, Body 20x14mm, Pitch 0.65mm, IPC Medium Density)
footprint PRQP0100JD-B_L (QFP, 100-Leads, Body 20x14mm, Pitch 0.65mm, IPC High Density)
footprint PRQP0100JD-B_M (QFP, 100-Leads, Body 20x14mm, Pitch 0.65mm, IPC Low Density)
part A pins: 1 P9_6/SOUT4/ANEX1 (io), 2 P9_5/CLK4/ANEX0 (io), 3 P9_4/TB4IN/PWM1/DA1 (io), 4 P9_3/TB3IN/PWM0/DA0 (io), 5 P9_2/TB2IN/PMC0/SOUT3 (io), 6 P9_1/TB1IN/PMC1/SIN3 (io), 7 P9_0/TB0IN/CLK3 (io), 8 BYTE (in), 9 CNVSS (in), 10 XCIN/P8_7 (io), 11 XCOUT/P8_6 (io), 12 ~{RESET} (in), 13 XOUT (out), 15 XIN (in), 17 P8_5/~{NMI}/~{SD}/CEC (io), 18 P8_4/~{INT2}/ZP (io), 19 P8_3/~{INT1} (io), 20 P8_2/~{INT0} (io), 21 P8_1/TA4IN/~{U}/~{CTS5}/~{RTS5} (io), 22 P8_0/TA4OUT/U/RXD5/SCL5 (io), 23 P7_7/TA3IN/CLK5 (io), 24 P7_6/TA3OUT/TXD5/SDA5 (io), 25 P7_5/TA2IN/~{W} (io), 26 P7_4/TA2OUT/W (io), 27 P7_3/TA1IN/~{V}/~{CTS2}/~{RTS2} (io), 28 P7_2/TA1OUT/V/CLK2 (io), 29 P7_1/TA0IN/TB5IN/RXD2/SCL2/SCLMM (io), 30 P7_0/TA0OUT/TXD2/SDA2/SDAMM (io), 31 P6_7/TXD1/SDA1 (io), 32 P6_6/RXD1/SCL1 (io), 33 P6_5/CLK1 (io), 34 P6_4/~{CTS1}/~{RTS1}/~{CTS0}/CLKS1 (io), 35 P6_3/TXD0/SDA0 (io), 36 P6_2/RXD0/SCL0 (io), 37 P6_1/CLK0 (io), 38 P6_0/TRHO/~{CTS0}/~{RTS0} (io), 39 CLKOUT/P5_7/~{RDY} (io), 40 P5_6/ALE (io), 41 P5_5/~{HOLD} (io), 42 P5_4/~{HLDA} (io), 43 P5_3/BCLK (io), 44 P5_2/~{RD} (io), 45 P5_1/~{WRH}/~{BHE} (io), 46 P5_0/~{WRL}/~{WR} (io), 47 P4_7/PWM1/TXD7/SDA7/~{CS3} (io), 48 P4_6/PWM0/RXD7/SCL7/~{CS2} (io), 49 P4_5/CLK7/~{CS1} (io), 50 P4_4/~{CTS7}/~{RTS7}/~{CS0} (io), 51 P4_3/A19 (io), 52 P4_2/A18 (io), 53 P4_1/A17 (io), 54 P4_0/A16 (io), 55 P3_7/A15 (io), 56 P3_6/A14 (io), 57 P3_5/A13 (io), 58 P3_4/A12 (io), 59 P3_3/A11 (io), 60 P3_2/A10 (io), 61 P3_1/A9 (io), 63 P3_0/A8,[A8/D7] (io), 65 P2_7/AN2_7/A7,[A7/D7],[A7/D6] (io), 66 P2_6/AN2_6/A6,[A6/D6],[A6/D5] (io), 67 P2_5/~{INT7}/AN2_5/A5,[A5/D5],[A5/D4] (io), 68 P2_4/~{INT6}/AN2_4/A4,[A4/D4],[A4/D3] (io), 69 P2_3/AN2_3/A3,[A3/D3],[A3/D2] (io), 70 P2_2/AN2_2/A2,[A2/D2],[A2/D1] (io), 71 P2_1/AN2_1/A1,[A1/D1],[A1/D0] (io), 72 P2_0/AN2_0/A0,[A0/D0],A0 (io), 73 P1_7/~{INT5}/IDU/D15 (io), 74 P1_6/~{INT4}/IDW/D14 (io), 75 P1_5/~{INT3}/IDV/D13 (io), 76 P1_4/D12 (io), 77 P1_3/TXD6/SDA6/D11 (io), 78 P1_2/RXD6/SCL6/D10 (io), 79 P1_1/CLK6/D9 (io), 80 P1_0/~{CTS6}/~{RTS6}/D8 (io), 81 P0_7/AN0_7/D7 (io), 82 P0_6/AN0_6/D6 (io), 83 P0_5/AN0_5/D5 (io), 84 P0_4/AN0_4/D4 (io), 85 P0_3/AN0_3/D3 (io), 86 P0_2/AN0_2/D2 (io), 87 P0_1/AN0_1/D1 (io), 88 P0_0/AN0_0/D0 (io), 89 P10_7/~{KI3}/AN7 (io), 90 P10_6/~{KI2}/AN6 (io), 91 P10_5/~{KI1}/AN5 (io), 92 P10_4/~{KI0}/AN4 (io), 93 P10_3/~{KI7}/AN3 (io), 94 P10_2/~{KI6}/AN2 (io), 95 P10_1/~{KI5}/AN1 (io), 97 P10_0/~{KI4}/AN0 (io), 98 VREF (in), 100 P9_7/SIN4/~{ADTRG} (io)
part B pins: 14 VSS (power), 16 VCC1 (power), 62 VCC2 (power), 64 VSS (power), 96 AVSS (power), 99 AVCC (power)

## R5F363A6NFB
designator U?
Flash Memory M16C/60 Series, 63 Group MCU, 128K + 24K ROM, 12K RAM, 100-pin LQFP, -20 to 85°C; Published: 26-Feb-2010; DatasheetVersion: Rev.1.00, Sep-2009; PackageVersion: Sep-2005; PackageReference: PLQP0100KB-A; Publisher: Altium Limited; PackageDescription: 100-Pin Plastic Low Profile QFP, 14 x 14 x 1.4 mm Body, 0.5 mm Pitch; Code_JEITA: P-LQFP100-14x14-0.50; Code_IPC: SQFP50P1600X1600-100; ComponentLink1Description: Manufacturer Link; ComponentLink1URL: http://sg.renesas.com/fmwk.jsp?cnt=m16c_family_landing.jsp&fp=/products/mpumcu/m16c_family/; ComponentLink2Description: Datasheet; ComponentLink2URL: http://documentation.renesas.com/eng/products/mpumcu/rej03b0271_16c63ds.pdf; ComponentLink3Description: Packaging Specification; ComponentLink3URL: http://sg.renesas.com/media/products/common_info/package/pdf/ic/code/plqp0100kb_a.pdf
footprint PLQP0100KB-A_N (Shrink QFP, 100-Leads, Body 14x14mm, Pitch 0.5mm, IPC Medium Density)
footprint PLQP0100KB-A_L (Shrink QFP, 100-Leads, Body 14x14mm, Pitch 0.5mm, IPC High Density)
footprint PLQP0100KB-A_M (Shrink QFP, 100-Leads, Body 14x14mm, Pitch 0.5mm, IPC Low Density)
part A pins: 1 P9_4/TB4IN/PWM1/DA1 (io), 2 P9_3/TB3IN/PWM0/DA0 (io), 3 P9_2/TB2IN/PMC0/SOUT3 (io), 4 P9_1/TB1IN/PMC1/SIN3 (io), 5 P9_0/TB0IN/CLK3 (io), 6 BYTE (in), 7 CNVSS (in), 8 XCIN/P8_7 (io), 9 XCOUT/P8_6 (io), 10 ~{RESET} (in), 11 XOUT (out), 13 XIN (in), 15 P8_5/~{NMI}/~{SD}/CEC (io), 16 P8_4/~{INT2}/ZP (io), 17 P8_3/~{INT1} (io), 18 P8_2/~{INT0} (io), 19 P8_1/TA4IN/~{U}/~{CTS5}/~{RTS5} (io), 20 P8_0/TA4OUT/U/RXD5/SCL5 (io), 21 P7_7/TA3IN/CLK5 (io), 22 P7_6/TA3OUT/TXD5/SDA5 (io), 23 P7_5/TA2IN/~{W} (io), 24 P7_4/TA2OUT/W (io), 25 P7_3/TA1IN/~{V}/~{CTS2}/~{RTS2} (io), 26 P7_2/TA1OUT/V/CLK2 (io), 27 P7_1/TA0IN/TB5IN/RXD2/SCL2/SCLMM (io), 28 P7_0/TA0OUT/TXD2/SDA2/SDAMM (io), 29 P6_7/TXD1/SDA1 (io), 30 P6_6/RXD1/SCL1 (io), 31 P6_5/CLK1 (io), 32 P6_4/~{CTS1}/~{RTS1}/~{CTS0}/CLKS1 (io), 33 P6_3/TXD0/SDA0 (io), 34 P6_2/RXD0/SCL0 (io), 35 P6_1/CLK0 (io), 36 P6_0/TRHO/~{CTS0}/~{RTS0} (io), 37 CLKOUT/P5_7/~{RDY} (io), 38 P5_6/ALE (io), 39 P5_5/~{HOLD} (io), 40 P5_4/~{HLDA} (io), 41 P5_3/BCLK (io), 42 P5_2/~{RD} (io), 43 P5_1/~{WRH}/~{BHE} (io), 44 P5_0/~{WRL}/~{WR} (io), 45 P4_7/PWM1/TXD7/SDA7/~{CS3} (io), 46 P4_6/PWM0/RXD7/SCL7/~{CS2} (io), 47 P4_5/CLK7/~{CS1} (io), 48 P4_4/~{CTS7}/~{RTS7}/~{CS0} (io), 49 P4_3/A19 (io), 50 P4_2/A18 (io), 51 P4_1/A17 (io), 52 P4_0/A16 (io), 53 P3_7/A15 (io), 54 P3_6/A14 (io), 55 P3_5/A13 (io), 56 P3_4/A12 (io), 57 P3_3/A11 (io), 58 P3_2/A10 (io), 59 P3_1/A9 (io), 61 P3_0/A8,[A8/D7] (io), 63 P2_7/AN2_7/A7,[A7/D7],[A7/D6] (io), 64 P2_6/AN2_6/A6,[A6/D6],[A6/D5] (io), 65 P2_5/~{INT7}/AN2_5/A5,[A5/D5],[A5/D4] (io), 66 P2_4/~{INT6}/AN2_4/A4,[A4/D4],[A4/D3] (io), 67 P2_3/AN2_3/A3,[A3/D3],[A3/D2] (io), 68 P2_2/AN2_2/A2,[A2/D2],[A2/D1] (io), 69 P2_1/AN2_1/A1,[A1/D1],[A1/D0] (io), 70 P2_0/AN2_0/A0,[A0/D0],A0 (io), 71 P1_7/~{INT5}/IDU/D15 (io), 72 P1_6/~{INT4}/IDW/D14 (io), 73 P1_5/~{INT3}/IDV/D13 (io), 74 P1_4/D12 (io), 75 P1_3/TXD6/SDA6/D11 (io), 76 P1_2/RXD6/SCL6/D10 (io), 77 P1_1/CLK6/D9 (io), 78 P1_0/~{CTS6}/~{RTS6}/D8 (io), 79 P0_7/AN0_7/D7 (io), 80 P0_6/AN0_6/D6 (io), 81 P0_5/AN0_5/D5 (io), 82 P0_4/AN0_4/D4 (io), 83 P0_3/AN0_3/D3 (io), 84 P0_2/AN0_2/D2 (io), 85 P0_1/AN0_1/D1 (io), 86 P0_0/AN0_0/D0 (io), 87 P10_7/~{KI3}/AN7 (io), 88 P10_6/~{KI2}/AN6 (io), 89 P10_5/~{KI1}/AN5 (io), 90 P10_4/~{KI0}/AN4 (io), 91 P10_3/~{KI7}/AN3 (io), 92 P10_2/~{KI6}/AN2 (io), 93 P10_1/~{KI5}/AN1 (io), 95 P10_0/~{KI4}/AN0 (io), 96 VREF (in), 98 P9_7/SIN4/~{ADTRG} (io), 99 P9_6/SOUT4/ANEX1 (io), 100 P9_5/CLK4/ANEX0 (io)
part B pins: 12 VSS (power), 14 VCC1 (power), 60 VCC2 (power), 62 VSS (power), 94 AVSS (power), 97 AVCC (power)

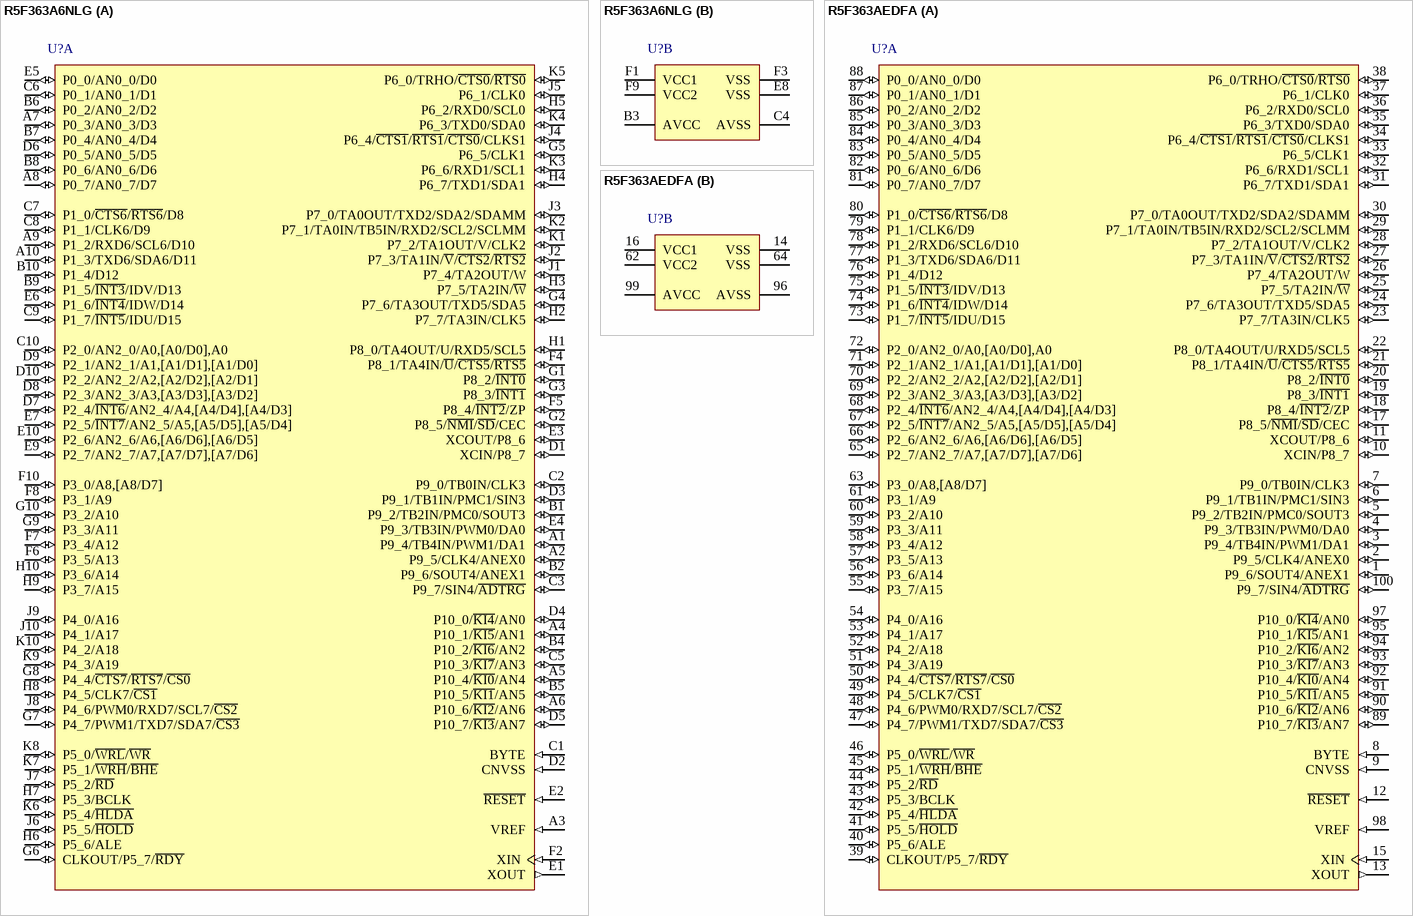
[diagram p146: symbols R5F363A6NLG to R5F363AEDFA]